# Altium schematic symbol library klp.SchLib: 211 symbols (part 2 of 2)
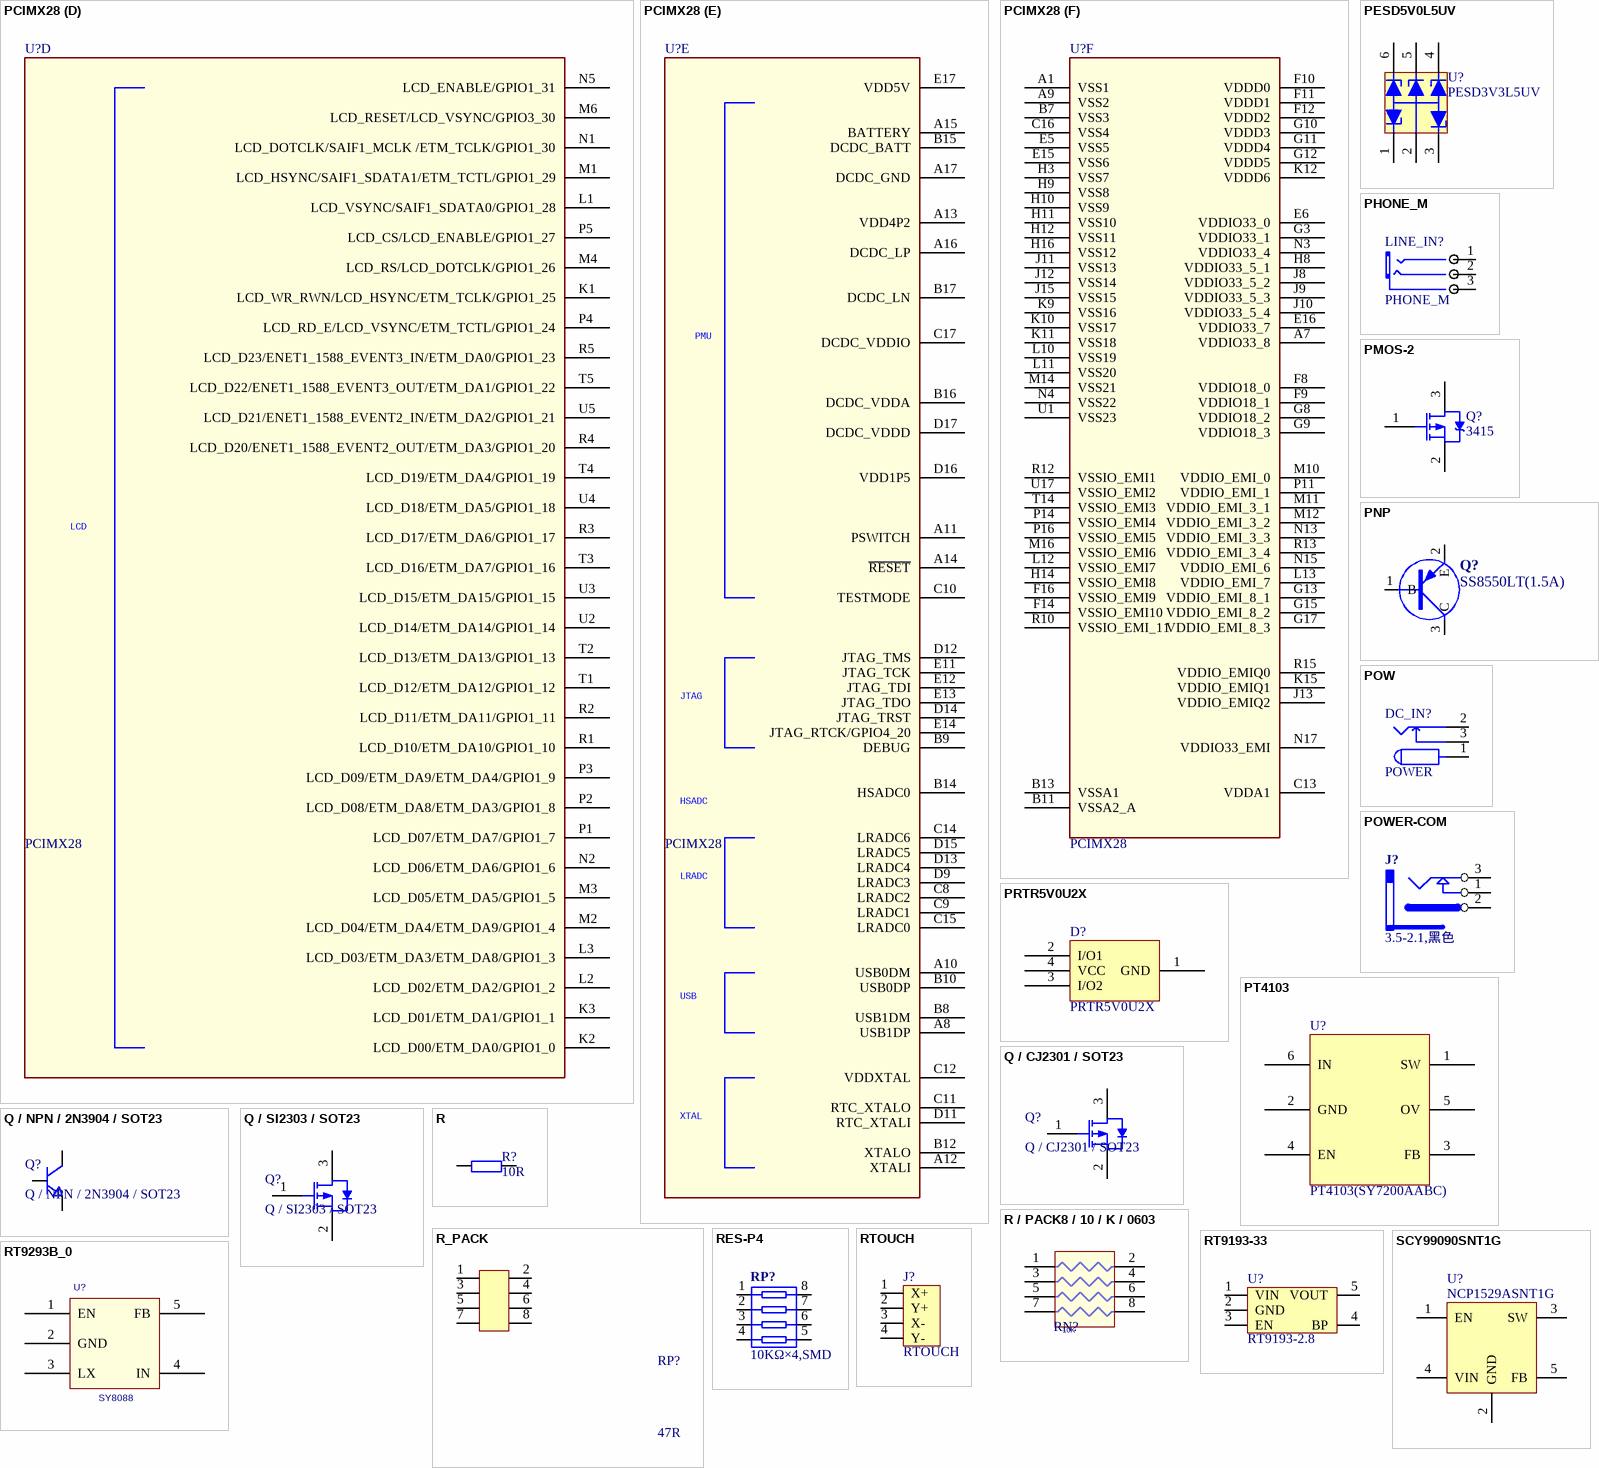
[diagram p14: symbols PCIMX28 to SCY99090SNT1G]

## PCIMX28
designator U?
footprint MAPBGA-289 (BGA, 81-Leads, Body 14.0x14.0mm,  Pitch 0.80mm)
part A pins: F13 EMI_D14, F15 EMI_DQM1, F17 EMI_D15, G14 EMI_D10, G16 EMI_D08, H13 EMI_D12, H15 EMI_D09, H17 EMI_D13, J14 EMI_D11, J16 EMI_DQS1N, J17 EMI_DQS1, K13 EMI_VREF1, K14 EMI_DDR_OPEN, K16 EMI_DQS0N, K17 EMI_DQS0, L14 EMI_D06, L15 EMI_DDR_OPEN_FB, L16 ~{EMI_CLK}, L17 EMI_CLK, M13 EMI_D01, M15 EMI_DQM0, M17 EMI_D07, N10 EMI_A14, N11 EMI_A07, N12 EMI_BA2, N14 EMI_D03, N16 EMI_D00, P9 ~{EMI_CE1}, P10 EMI_A09, P12 ~{EMI_CE0}, P13 EMI_D04, P15 EMI_D02, P17 EMI_D05, R9 EMI_A06, R11 EMI_A05, R14 EMI_VREF0, R16 ~{EMI_RAS}, R17 EMI_ODT0, T9 EMI_A13, T10 EMI_A11, T11 EMI_A03, T12 EMI_BA1, T13 EMI_CKE, T15 ~{EMI_WEN}, T16 EMI_BA0, T17 EMI_ODT1, U9 EMI_A08, U10 EMI_A04, U11 EMI_A12, U12 EMI_A01, U13 EMI_A10, U14 EMI_A02, U15 EMI_A00, U16 ~{EMI_CAS}
part B pins: A2 SSP3_SCK/AUART4_TX/ENET1_1588_EVENT0_OUT/GPIO2_24, A3 SSP2_SCK/AUART2_RX/SAIF0_SDATA1/GPIO2_16, A4 SSP0_CMD/GPIO2_8, A5 SSP0_DATA3/GPIO2_3, A6 SSP0_SCK/GPIO2_10, B1 SSP1_SCK/SSP2_D1/ENET0_1588_EVENT2_OUT/GPIO2_12, B2 SSP3_MISO:D0/AUART4_RTS/ENET1_1588_EVENT1_OUT/GPIO2_26, B3 SSP2_MISO:D0/AUART3_RX/SAIF1_SDATA1/GPIO2_18, B4 SSP0_DATA7/SSP2_SCK/GPIO2_7, B5 SSP0_DATA4/SSP2_D0/GPIO2_4, B6 SSP0_DATA0/GPIO2_0, C1 SSP1_CMD/SSP2_D2/ENET0_1588_EVENT2_IN//GPIO2_13, C2 SSP3_MOSI:CMD/AUART4_RX/ENET1_1588_EVENT0_IN/GPIO2_25, C3 SSP2_MOSI:CMD/AUART2_TX/SAIF0_SDATA2/GPIO2_17, C4 SSP2_SS0:D3/AUART3_TX/SAIF1_SDATA2/GPIO2_19, C5 SSP0_DATA5/SSP2_D3/GPIO2_5, C6 SSP0_DATA1/GPIO2_1, D1 SSP1_DATA0/SSP2_D6/ENET0_1588_EVENT3_OUT//GPIO2_14, D2 SSP3_SS0:D3/AUART4_CTS/ENET1_1588_EVENT1_IN/GPIO2_27, D3 SSP2_SS1:D4/SSP2_D1/USB1_OVERCURRENT/GPIO2_20, D4 SSP2_SS2:D5/SSP2_D2/USB0_OVERCURRENT/GPIO2_21, D5 SSP0_DATA6/SSP2_CMD/GPIO2_6, D6 SSP0_DATA2/GPIO2_2, D10 SSP0_DETECT/GPIO2_9, E1 SSP1_DATA3/SSP2_D7/ENET0_1588_EVENT3_IN//GPIO2_15, L8 GPMI_RDY3/CAN0_RX/HSADC_TRIGGER/GPIO0_23, L9 GPMI_RESETN/SSP3_CMD/GPIO0_28, M7 GPMI_CE2N/CAN1_TX/ENET0_RX_ER/GPIO0_18, M8 GPMI_RDY2/CAN0_TX/ENET0_TX_ER/GPIO0_22, M9 GPMI_CE3N/CAN1_RX/SAIF1_MCLK/GPIO0_19, N6 GPMI_RDY0/SSP1_CARD_DETECT/USB0_ID/GPIO0_20, N7 GPMI_CE0N/SSP3_D0/GPIO0_16, N8 GPMI_RDY1/SSP1_CMD/GPIO0_21, N9 GPMI_CE1N/SSP3_D3/GPIO0_17, P6 GPMI_ALE/SSP3_D1/SSP3_D4/GPIO0_26, P7 GPMI_CLE/SSP3_D2/SSP3_D5/GPIO0_27, P8 GPMI_WRN/SSP1_SCK/GPIO0_25, R6 GPMI_RDN/SSP3_SCK/GPIO0_24, R7 GPMI_D05/SSP1_D5/GPIO0_5, R8 GPMI_D02/SSP1_D2/GPIO0_2, T6 GPMI_D07/SSP1_D7/GPIO0_7, T7 GPMI_D04/SSP1_D4/GPIO0_4, T8 GPMI_D01/SSP1_D1/GPIO0_1, U6 GPMI_D06/SSP1_D6/GPIO0_6, U7 GPMI_D03/SSP1_D3/GPIO0_3, U8 GPMI_D00/SSP1_D0/GPIO0_0
part C pins: C7 I2C0_SCL/TIMROT_ROTARYA/DUART_RX/GPIO3_24, D7 SPDIF/ENET1_RX_ER/GPIO3_27, D8 I2C0_SDA/TIMROT_ROTARYB/DUART_TX/GPIO3_25, E2 ENET_CLK/GPIO4_16, E3 ENET0_TX_CLK/HSADC_TRIGGER/ENET0_1588_EVENT2_OUT/GPIO4_5, E4 ENET0_RX_EN/GPMI_CE6N/SAIF1_SDATA1/GPIO4_2, E7 SAIF0_SDATA0/PWM_6/AUART4_TX/GPIO3_23, E8 SAIF1_SDATA0/PWM_7/SAIF0_SDATA1/GPIO3_26, E9 PWM3/GPIO3_28, E10 PWM4/GPIO3_29, F1 ENET0_TXD0/GPMI_READY6/GPIO4_7, F2 ENET0_TXD1/GPMI_READY7/GPIO4_8, F3 ENET0_RX_CLK/ENET0_RX_ER/ENET0_1588_EVENT2_IN/GPIO4_13, F4 ENET0_TX_EN/GPMI_READY5/GPIO4_6, F5 AUART2_TX/SSP3_D2/SSP3_D5/GPIO3_9, F6 AUART2_RX/SSP3_D1/SSP3_D4/GPIO3_8, F7 SAIF0_BITCLK/PWM_5/AUART4_RX/GPIO3_22, G1 ENET0_TXD2/ENET1_TXD0/ENET0_1588_EVENT1_OUT/GPIO4_11, G2 ENET0_TXD3/ENET1_TXD1/ENET0_1588_EVENT1_IN/GPIO4_12, G4 ENET0_MDC/GPMI_CE4N/SAIF0_SDATA1/GPIO4_0, G5 AUART0_RX/I2C0_SCL/DUART_CTS/GPIO3_0, G6 SAIF0_LRCLK/PWM_4/AUART4_RTS/GPIO3_21, G7 SAIF0_MCLK/PWM_3/AUART4_CTS/GPIO3_20, H1 ENET0_RXD0/GPMI_CE7N/SAIF1_SDATA2/GPIO4_3, H2 ENET0_RXD1/GPMI_READY4/GPIO4_4, H4 ENET0_MDIO/GPMI_CE5N/SAIF0_SDATA2/GPIO4_1, H5 AUART0_TX/I2C0_SDA/DUART_RTS/GPIO3_1, H6 AUART2_CTS/I2C1_SCL/SAIF1_BITCLK/GPIO3_10, H7 AUART2_RTS/I2C1_SDA/SAIF1_LRCLK/GPIO3_11, J1 ENET0_RXD2/ENET1_RXD0/ENET0_1588_EVENT0_OUT/GPIO4_9, J2 ENET0_RXD3/ENET1_RXD1/ENET0_1588_EVENT0_IN/GPIO4_10, J3 ENET0_CRS/ENET1_RX_EN/ENET0_1588_EVENT3_IN/GPIO4_15, J4 ENET0_COL/ENET1_TX_EN/ENET0_1588_EVENT3_OUT/GPIO4_14, J5 AUART1_RTS/USB0_ID/TIMROT_ROTARYB/GPIO3_7, J6 AUART0_CTS/AUART4_RX/DUART_RX/GPIO3_2, J7 AUART0_RTS/AUART4_TX/DUART_TX/GPIO3_3, K4 AUART1_TX/SSP3_CARD_DETECT/PWM_1/GPIO3_5, K5 AUART1_CTS/USB0_OVERCURRENT/TIMROT_ROTARYA/GPIO3_6, K6 AUART3_RTS/CAN1_RX/ENET0_1588_EVENT1_IN/GPIO3_15, K7 PWM0/I2C1_SCL/DUART_RX/GPIO3_16, K8 PWM2/USB0_ID/USB1_OVERCURRENT/GPIO3_18, L4 AUART1_RX/SSP2_CARD_DETECT/PWM_0/GPIO3_4, L5 AUART3_TX/CAN0_RX/ENET0_1588_EVENT0_IN/GPIO3_13, L6 AUART3_CTS/CAN1_TX/ENET0_1588_EVENT1_OUT/GPIO3_14, L7 PWM1/I2C1_SDA/DUART_TX/GPIO3_17, M5 AUART3_RX/CAN0_TX/ENET0_1588_EVENT0_OUT/GPIO3_12
part D pins: K1 LCD_WR_RWN/LCD_HSYNC/ETM_TCLK/GPIO1_25, K2 LCD_D00/ETM_DA0/GPIO1_0, K3 LCD_D01/ETM_DA1/GPIO1_1, L1 LCD_VSYNC/SAIF1_SDATA0/GPIO1_28, L2 LCD_D02/ETM_DA2/GPIO1_2, L3 LCD_D03/ETM_DA3/ETM_DA8/GPIO1_3, M1 LCD_HSYNC/SAIF1_SDATA1/ETM_TCTL/GPIO1_29, M2 LCD_D04/ETM_DA4/ETM_DA9/GPIO1_4, M3 LCD_D05/ETM_DA5/GPIO1_5, M4 LCD_RS/LCD_DOTCLK/GPIO1_26, M6 LCD_RESET/LCD_VSYNC/GPIO3_30, N1 LCD_DOTCLK/SAIF1_MCLK /ETM_TCLK/GPIO1_30, N2 LCD_D06/ETM_DA6/GPIO1_6, N5 LCD_ENABLE/GPIO1_31, P1 LCD_D07/ETM_DA7/GPIO1_7, P2 LCD_D08/ETM_DA8/ETM_DA3/GPIO1_8, P3 LCD_D09/ETM_DA9/ETM_DA4/GPIO1_9, P4 LCD_RD_E/LCD_VSYNC/ETM_TCTL/GPIO1_24, P5 LCD_CS/LCD_ENABLE/GPIO1_27, R1 LCD_D10/ETM_DA10/GPIO1_10, R2 LCD_D11/ETM_DA11/GPIO1_11, R3 LCD_D17/ETM_DA6/GPIO1_17, R4 LCD_D20/ENET1_1588_EVENT2_OUT/ETM_DA3/GPIO1_20, R5 LCD_D23/ENET1_1588_EVENT3_IN/ETM_DA0/GPIO1_23, T1 LCD_D12/ETM_DA12/GPIO1_12, T2 LCD_D13/ETM_DA13/GPIO1_13, T3 LCD_D16/ETM_DA7/GPIO1_16, T4 LCD_D19/ETM_DA4/GPIO1_19, T5 LCD_D22/ENET1_1588_EVENT3_OUT/ETM_DA1/GPIO1_22, U2 LCD_D14/ETM_DA14/GPIO1_14, U3 LCD_D15/ETM_DA15/GPIO1_15, U4 LCD_D18/ETM_DA5/GPIO1_18, U5 LCD_D21/ENET1_1588_EVENT2_IN/ETM_DA2/GPIO1_21
part E pins: A8 USB1DP, A10 USB0DM, A11 PSWITCH, A12 XTALI, A13 VDD4P2, A14 ~{RESET}, A15 BATTERY, A16 DCDC_LP, A17 DCDC_GND, B8 USB1DM, B9 DEBUG, B10 USB0DP, B12 XTALO, B14 HSADC0, B15 DCDC_BATT, B16 DCDC_VDDA, B17 DCDC_LN, C8 LRADC2, C9 LRADC1, C10 TESTMODE, C11 RTC_XTALO, C12 VDDXTAL, C14 LRADC6, C15 LRADC0, C17 DCDC_VDDIO, D9 LRADC3, D11 RTC_XTALI, D12 JTAG_TMS, D13 LRADC4, D14 JTAG_TRST, D15 LRADC5, D16 VDD1P5, D17 DCDC_VDDD, E11 JTAG_TCK, E12 JTAG_TDI, E13 JTAG_TDO, E14 JTAG_RTCK/GPIO4_20, E17 VDD5V
part F pins: A1 VSS1, A7 VDDIO33_8, A9 VSS2, B7 VSS3, B11 VSSA2_A, B13 VSSA1, C13 VDDA1, C16 VSS4, E5 VSS5, E6 VDDIO33_0, E15 VSS6, E16 VDDIO33_7, F8 VDDIO18_0, F9 VDDIO18_1, F10 VDDD0, F11 VDDD1, F12 VDDD2, F14 VSSIO_EMI10, F16 VSSIO_EMI9, G3 VDDIO33_1, G8 VDDIO18_2, G9 VDDIO18_3, G10 VDDD3, G11 VDDD4, G12 VDDD5, G13 VDDIO_EMI_8_1, G15 VDDIO_EMI_8_2, G17 VDDIO_EMI_8_3, H3 VSS7, H8 VDDIO33_5_1, H9 VSS8, H10 VSS9, H11 VSS10, H12 VSS11, H14 VSSIO_EMI8, H16 VSS12, J8 VDDIO33_5_2, J9 VDDIO33_5_3, J10 VDDIO33_5_4, J11 VSS13, J12 VSS14, J13 VDDIO_EMIQ2, J15 VSS15, K9 VSS16, K10 VSS17, K11 VSS18, K12 VDDD6, K15 VDDIO_EMIQ1, L10 VSS19, L11 VSS20, L12 VSSIO_EMI7, L13 VDDIO_EMI_7, M10 VDDIO_EMI_0, M11 VDDIO_EMI_3_1, M12 VDDIO_EMI_3_2, M14 VSS21, M16 VSSIO_EMI6, N3 VDDIO33_4, N4 VSS22, N13 VDDIO_EMI_3_3, N15 VDDIO_EMI_6, N17 VDDIO33_EMI, P11 VDDIO_EMI_1, P14 VSSIO_EMI4, P16 VSSIO_EMI5, R10 VSSIO_EMI_11, R12 VSSIO_EMI1, R13 VDDIO_EMI_3_4, R15 VDDIO_EMIQ0, T14 VSSIO_EMI3, U1 VSS23, U17 VSSIO_EMI2
part A text: EMI
part B text: GPMI; SSP0; SSP1; SSP2; SSP3
part C text: I2C0; AUART0; AUART1; AUART2; AUART3; ENET0; PWM; SAIF0; SAIF1; SPDIF
part D text: LCD
part E text: PMU; JTAG; HSADC; LRADC; USB; XTAL

## PESD5V0L5UV
designator U?  value PESD3V3L5UV  (hidden comment: PESD5V0L5UV)
PESD3V3L5UV,SOT-666,NXP,RoHS; 物料代码: 1.05.10.0315; 名称: IC; 设备封装名称: SOT-666_PESD3V3L5UV; 贴片和直插: SMT; 封装: SOT-666; 厂商: NXP; RoHS: RoHS; 型号: PESD3V3L5UV; ComponentLink1Description: ErpDataInfo; ComponentLink1URL: http://erp.zlgmcu.com/ErpExt/ErpData/ListMateriel.aspx?pkey=1.05.10.0315
footprint SOT-666
pins: 1, 2, 3, 4, 5, 6
2 alternate drawings of the same symbol

## PHONE_M
designator LINE_IN?
footprint PHONE_ST
pins: 1 CHL, 2 CHR, 3 COM

## PMOS-2
designator Q?, comment 3415
P-Channel Power MOSFET; Note: Pin 4 not drawn and electrically connected to Pin 2.; Published: 8-Jun-2000; LatestRevisionDate: 17-Jul-2002; LatestRevisionNote: Re-released for DXP Platform.; DatasheetVersion: PD-9.390D; PackageVersion: Feb-1997; PackageReference: TO-220AB; Publisher: Altium Limited; PackageDescription: TO, Thru-Hole, Vertical, Heatsink Mounted; 3 In-Line Leads; Pitch 2.54 mm; ComponentLink1Description: Manufacturer Link; ComponentLink1URL: http://www.irf.com/
footprint SOT-23
simulation model IRF9510 (Spice Subcircuit)
pins: 1 G, 2 S, 3 D

## PNP
designator Q?, comment value SS8550LT(1.5A)  (hidden comment: PNP-1)
SS8550LT(1.5A),SOT-23,江苏长电,RoHS; 物料代码: 1.04.09.0002; 名称: 三极管; 设备封装名称: SOT-23_SS8550LT; 贴片和直插: SMT; 封装: SOT-23; 厂商: 江苏长电; RoHS: RoHS; 型号: SS8550LT(1.5A); ComponentLink1Description: ErpDataInfo; ComponentLink1URL: http://erp.zlgmcu.com/ErpExt/ErpData/ListMateriel.aspx?pkey=1.04.09.0002
footprint SOT-23
pins: 1 B, 2 E, 3 C
2 alternate drawings of the same symbol

## POW
designator DC_IN?, comment POWER
footprint POWER (DC_IN)
footprint DC10B
pins: 1, 2, 3

## POWER-COM
designator J?  value 3.5-2.1,黑色  (hidden comment: POWER-COM)
3.5-2.1,黑色,RoHS; 物料代码: 1.10.05.0001; 名称: 电源座; 贴片和直插: THT; RoHS: RoHS; 型号: 3.5-2.1,黑色; ComponentLink1Description: ErpDataInfo; ComponentLink1URL: http://erp.zlgmcu.com/ErpExt/ErpData/ListMateriel.aspx?pkey=1.10.05.0001
footprint POWER-AC
pins: 1 A, 2 B, 3 B
2 alternate drawings of the same symbol

## PRTR5V0U2X
designator D?
PRTR5V0U2X,SOT-143B,NXP,RoHS; 物料代码: 1.05.10.0153; 名称: IC; 设备封装名称: SOT-143B_PRTR5V0U2X; 贴片和直插: SMT; 封装: SOT-143B; 厂商: NXP; RoHS: RoHS; 型号: PRTR5V0U2X; ComponentLink1Description: ErpDataInfo; ComponentLink1URL: http://erp.zlgmcu.com/ErpExt/ErpData/ListMateriel.aspx?pkey=1.05.10.0153; Value: PRTR5V0U2X
footprint SOT-143
pins: 1 GND, 2 I/O1, 3 I/O2, 4 VCC
2 alternate drawings of the same symbol

## PT4103
designator U?, comment PT4103(SY7200AABC)
footprint SOT23-6 (SOT-23/SC-74A; 5 Leads; Body 3.1 x 3 mm, inc. leads (LxW max))
pins: 1 SW, 2 GND, 3 FB, 4 EN, 5 OV, 6 IN

## Q / CJ2301 / SOT23
designator Q?
P-MOS
footprint SOT23
pins: 1 G, 2 S, 3 D

## Q / NPN / 2N3904 / SOT23
designator Q?
NPN三极管
footprint SOT23
pins: 1, 2, 3

## Q / SI2303 / SOT23
designator Q?
PMOS
footprint SOT23
pins: 1 G "gate", 2 S "source", 3 D "drain"

## R
designator R?, comment 10R
footprint RL (10o/0.7uH)
footprint R16.0 (RX/1W)
footprint 1206
footprint 1210
footprint R20.0 (RX/2W)
footprint R10.16 (STD)
footprint RLN9 (13.5mm*5.1mm)
footprint 0402R
footprint 0603R
footprint 0805R
pins: 1, 2

## R / PACK8 / 10 / K / 0603
designator RN?, comment 10K
贴片排阻
footprint Array-1206-4Way
pins: 1 R1, 2 R1, 3 R2, 4 R2, 5 R3, 6 R3, 7 R4, 8 R4

## R_PACK
designator RP?, comment 47R
排阻
footprint 8P4R_0603
pins: 1, 2, 3, 4, 5, 6, 7, 8

## RES-P4
designator RP?, comment 10KΩ×4,SMD
10KΩ×4,SMD,PZ-4-0.8,RoHS; 物料代码: 1.01.04.0004; 名称: 网络电阻; 设备封装名称: 10K_4_0603; 贴片和直插: SMT; 封装: PZ-4-0.8; RoHS: RoHS; 型号: 10KΩ×4,SMD; ComponentLink1Description: ErpDataInfo; ComponentLink1URL: http://erp.zlgmcu.com/ErpExt/ErpData/ListMateriel.aspx?pkey=1.01.04.0004; Value: 10KΩ×4,SMD
footprint 0603RA
pins: 1, 2, 3, 4, 5, 6, 7, 8
2 alternate drawings of the same symbol

## RT9193-33
designator U?, comment RT9193-2.8
3.3V超低压差LDO
footprint SOT-23-5
pins: 1 VIN, 2 GND, 3 EN, 4 BP, 5 VOUT

## RT9293B_0
designator U?, comment SY8088
PAGE: 5; ROOM: DCDC
footprint SOT23-5
footprint SOT23-5
pins: 1 EN, 2 GND, 3 LX, 4 IN, 5 FB

## RTOUCH
designator J?
7' 电阻触摸屏
footprint FFC/SM1.0-4
pins: 1 X+, 2 Y+, 3 X-, 4 Y-

## SCY99090SNT1G
designator U?  value NCP1529ASNT1G  (hidden comment: SCY99090SNT1G)
NCP1529ASNT1G,TSOP-5,ON,RoHS; 物料代码: 1.05.09.0091; 名称: IC; 设备封装名称: TSOP-5_NCP1529ASNT1G; 贴片和直插: SMT; 封装: TSOP-5; 厂商: ON; RoHS: RoHS; 型号: NCP1529ASNT1G; ComponentLink1Description: ErpDataInfo; ComponentLink1URL: http://erp.zlgmcu.com/ErpExt/ErpData/ListMateriel.aspx?pkey=1.05.09.0091
footprint SOT-23-5
pins: 1 EN, 2 GND, 3 SW, 4 VIN, 5 FB

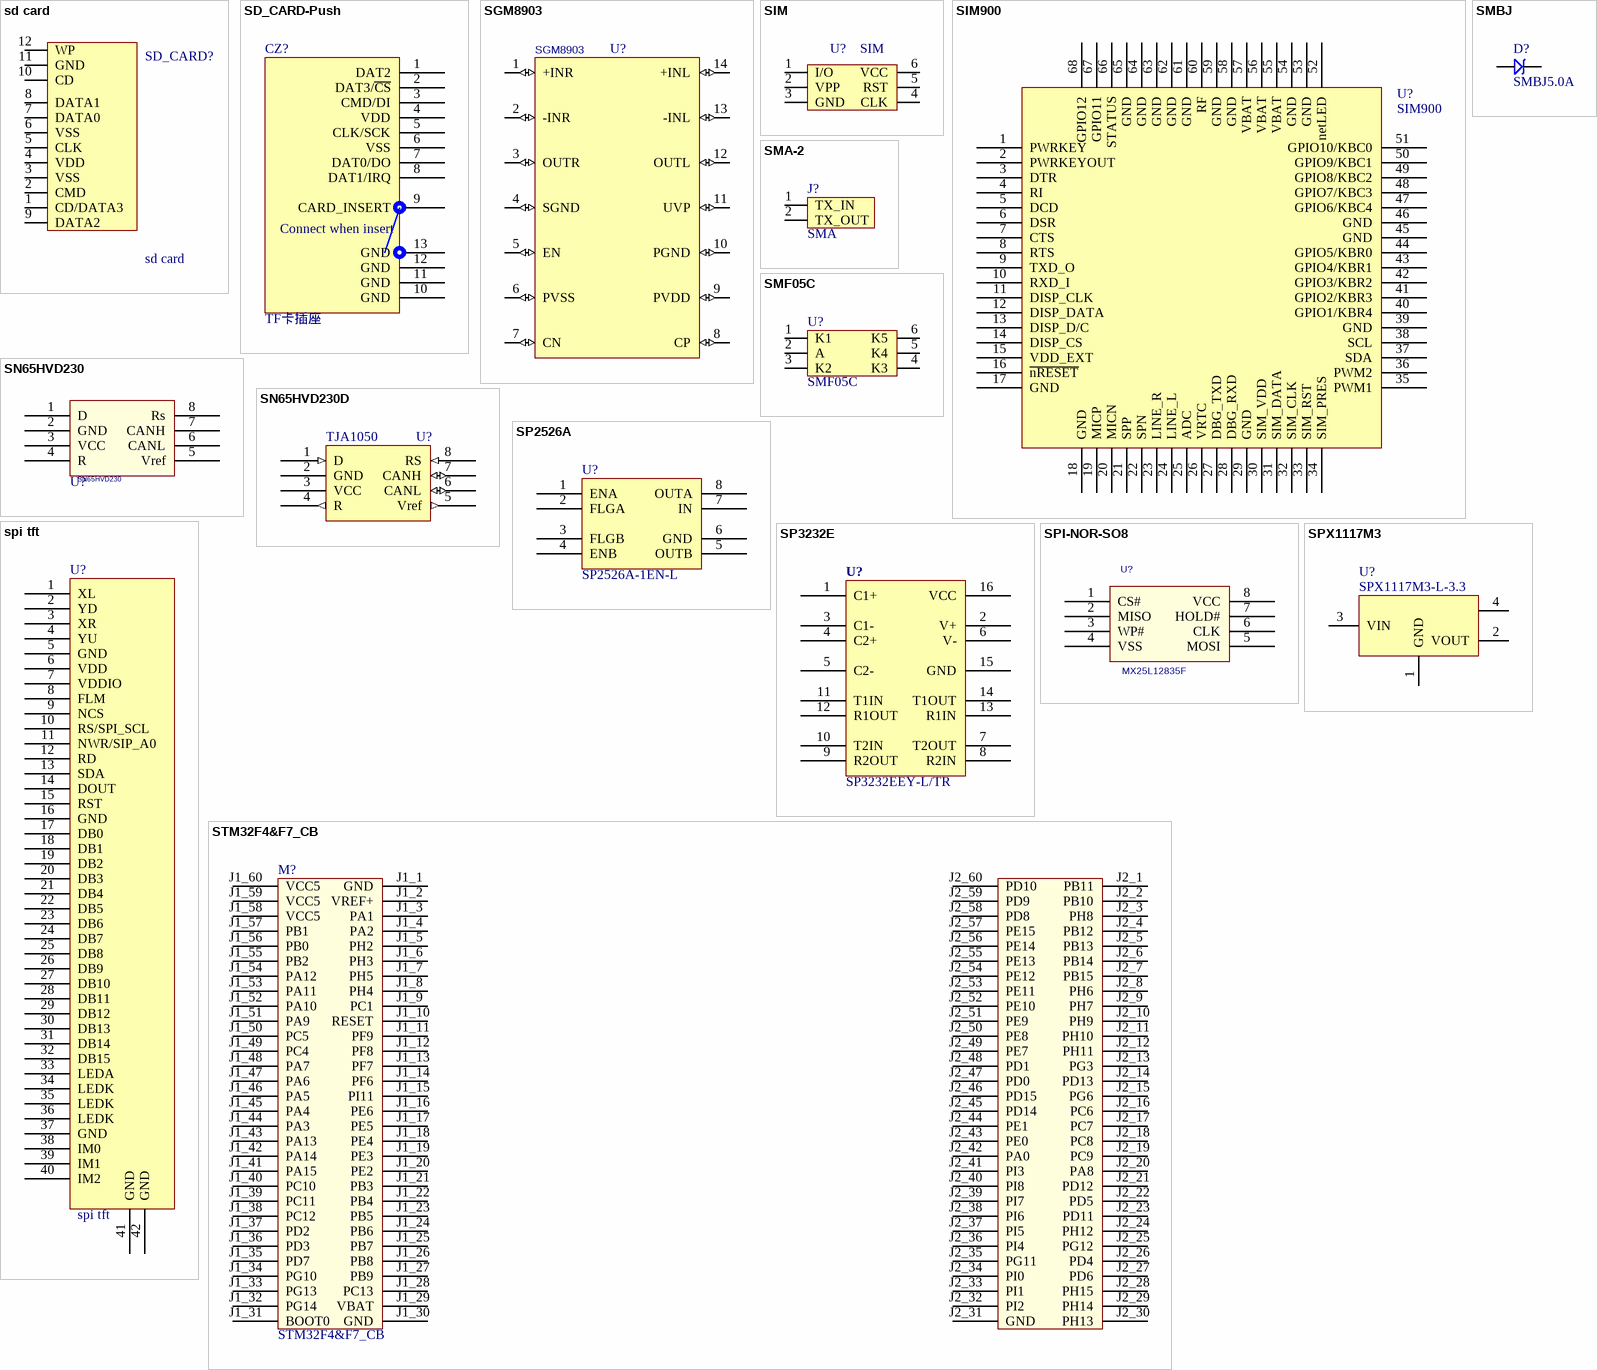
[diagram p10: symbols sd card to STM32F4&F7_CB]

## sd card
designator SD_CARD?
footprint SDCARD_S (SDCARD_SMALL)
footprint SDCARD_L
pins: 1 CD/DATA3, 2 CMD, 3 VSS, 4 VDD, 5 CLK, 6 VSS, 7 DATA0, 8 DATA1, 9 DATA2, 10 CD, 11 GND, 12 WP

## SD_CARD-Push
designator CZ?, comment TF卡插座
自弹式TF卡卡座
footprint SDIO卡座(8P)
pins: 1 DAT2, 2 DAT3/~{CS}, 3 CMD/DI, 4 VDD, 5 CLK/SCK, 6 VSS, 7 DAT0/DO, 8 DAT1/IRQ, 9 CARD_INSERT, 10 GND, 11 GND, 12 GND, 13 GND
text: Connect when insert

## SGM8903
designator U?
PARTS: 1; LEVEL: STD; OriginalSymbolOrigin: (0,0); HETERO: SGM8903; PKG_TYPE: SGM8903; DEVICE: SGM8903
footprint SGM8903
pins: 1 +INR (io), 2 -INR (io), 3 OUTR (io), 4 SGND (io), 5 EN (io), 6 PVSS (io), 7 CN (io), 8 CP (io), 9 PVDD (io), 10 PGND (io), 11 UVP (io), 12 OUTL (io), 13 -INL (io), 14 +INL (io)

## SIM
designator U?
手机SIM卡
footprint SIM (金属式)
pins: 1 I/O, 2 VPP, 3 GND, 4 CLK, 5 RST, 6 VCC

## SIM900
designator U?
footprint GSM_900A
pins: 1 PWRKEY, 2 PWRKEYOUT, 3 DTR, 4 RI, 5 DCD, 6 DSR, 7 CTS, 8 RTS, 9 TXD_O, 10 RXD_I, 11 DISP_CLK, 12 DISP_DATA, 13 DISP_D/C, 14 DISP_CS, 15 VDD_EXT, 16 ~{nRESET}, 17 GND, 18 GND, 19 MICP, 20 MICN, 21 SPP, 22 SPN, 23 LINE_R, 24 LINE_L, 25 ADC, 26 VRTC, 27 DBG_TXD, 28 DBG_RXD, 29 GND, 30 SIM_VDD, 31 SIM_DATA, 32 SIM_CLK, 33 SIM_RST, 34 SIM_PRES, 35 PWM1, 36 PWM2, 37 SDA, 38 SCL, 39 GND, 40 GPIO1/KBR4, 41 GPIO2/KBR3, 42 GPIO3/KBR2, 43 GPIO4/KBR1, 44 GPIO5/KBR0, 45 GND, 46 GND, 47 GPIO6/KBC4, 48 GPIO7/KBC3, 49 GPIO8/KBC2, 50 GPIO9/KBC1, 51 GPIO10/KBC0, 52 netLED, 53 GND, 54 GND, 55 VBAT, 56 VBAT, 57 VBAT, 58 GND, 59 GND, 60 RF, 61 GND, 62 GND, 63 GND, 64 GND, 65 GND, 66 STATUS, 67 GPIO11, 68 GPIO12

## SMA-2
designator J?, comment SMA
SMA-2
footprint SMA-2
pins: 1 TX_IN, 2 TX_OUT

## SMBJ
designator D?, comment SMBJ5.0A
TVS
footprint SMBJ (3.9*5.6)
pins: 1, 2

## SMF05C
designator U?
TVS
footprint SOT-363
pins: 1 K1, 2 A, 3 K2, 4 K3, 5 K4, 6 K5

## SN65HVD230
designator U?
footprint SOIC8
pins: 1 D, 2 GND, 3 VCC, 4 R, 5 Vref, 6 CANL, 7 CANH, 8 Rs

## SN65HVD230D
designator U?, comment TJA1050
footprint SOP-8 (SSOP8)
footprint SO8
pins: 1 D (in), 2 GND (power), 3 VCC (power), 4 R (out), 5 Vref (out), 6 CANL (io), 7 CANH (io), 8 RS (in)
2 alternate drawings of the same symbol

## SP2526A
designator U?  value SP2526A-1EN-L  (hidden comment: SP2526A)
SP2526A-1EN-L,SO-8,EXAR,RoHS; 物料代码: 1.05.09.0064; 名称: IC; 设备封装名称: SO-8_SP2526A-1EN-L; 贴片和直插: SMT; 封装: SO-8; 厂商: EXAR; RoHS: RoHS; 型号: SP2526A-1EN-L; ComponentLink1Description: ErpDataInfo; ComponentLink1URL: http://erp.zlgmcu.com/ErpExt/ErpData/ListMateriel.aspx?pkey=1.05.09.0064
footprint SOIC127P600X175-8N
pins: 1 ENA, 2 FLGA, 3 FLGB, 4 ENB, 5 OUTB, 6 GND, 7 IN, 8 OUTA
2 alternate drawings of the same symbol

## SP3232E
designator U?  value SP3232EEY-L/TR  (hidden comment: SP3232E)
SP3232EEY-L/TR,TSSOP-16,EXAR,RoHS; 物料代码: 1.05.08.0024; 名称: IC; 设备封装名称: TSSOP-16_SP3232EEY-L/TR; 贴片和直插: SMT; 封装: TSSOP-16; 厂商: EXAR; RoHS: RoHS; 型号: SP3232EEY-L/TR; ComponentLink1Description: ErpDataInfo; ComponentLink1URL: http://erp.zlgmcu.com/ErpExt/ErpData/ListMateriel.aspx?pkey=1.05.08.0024
footprint SOP65P640X120-16N
pins: 1 C1+, 2 V+, 3 C1-, 4 C2+, 5 C2-, 6 V-, 7 T2OUT, 8 R2IN, 9 R2OUT, 10 T2IN, 11 T1IN, 12 R1OUT, 13 R1IN, 14 T1OUT, 15 GND, 16 VCC

## spi tft
designator U?
footprint FPC-40-0.5-up (CFP, 90-Leads, Body 1.4x5.1mm (max), Pitch 0.50mm, IPC Medium Density)
pins: 1 XL, 2 YD, 3 XR, 4 YU, 5 GND, 6 VDD, 7 VDDIO, 8 FLM, 9 NCS, 10 RS/SPI_SCL, 11 NWR/SIP_A0, 12 RD, 13 SDA, 14 DOUT, 15 RST, 16 GND, 17 DB0, 18 DB1, 19 DB2, 20 DB3, 21 DB4, 22 DB5, 23 DB6, 24 DB7, 25 DB8, 26 DB9, 27 DB10, 28 DB11, 29 DB12, 30 DB13, 31 DB14, 32 DB15, 33 LEDA, 34 LEDK, 35 LEDK, 36 LEDK, 37 GND, 38 IM0, 39 IM1, 40 IM2, 41 GND, 42 GND

## SPI-NOR-SO8
designator U?, comment MX25L12835F
PAGE: 7
footprint SOP-8M(PAD)
pins: 1 CS#, 2 MISO, 3 WP#, 4 VSS, 5 MOSI, 6 CLK, 7 HOLD#, 8 VCC

## SPX1117M3
designator U?, comment value SPX1117M3-L-3.3  (hidden comment: SPX1117M3-L/TR)
SPX1117M3-L-3.3,SOT-223,EXAR,RoHS; 物料代码: 1.05.09.0025; 名称: IC; 设备封装名称: SOT-223_SPX1117M3-L-3.3; 贴片和直插: SMT; 封装: SOT-223; 厂商: EXAR; RoHS: RoHS; 型号: SPX1117M3-L-3.3; ComponentLink1Description: ErpDataInfo; ComponentLink1URL: http://erp.zlgmcu.com/ErpExt/ErpData/ListMateriel.aspx?pkey=1.05.09.0025
footprint SOT-223
pins: 1 GND, 2 VOUT, 3 VIN, 4

## STM32F4&F7_CB
designator M?
F429/746 Core Board
footprint STM32F4&F7_CB (PIN:0.5mm;SOP;)
pins: J1_1 GND, J1_2 VREF+, J1_3 PA1, J1_4 PA2, J1_5 PH2, J1_6 PH3, J1_7 PH5, J1_8 PH4, J1_9 PC1, J1_10 RESET, J1_11 PF9, J1_12 PF8, J1_13 PF7, J1_14 PF6, J1_15 PI11, J1_16 PE6, J1_17 PE5, J1_18 PE4, J1_19 PE3, J1_20 PE2, J1_21 PB3, J1_22 PB4, J1_23 PB5, J1_24 PB6, J1_25 PB7, J1_26 PB8, J1_27 PB9, J1_28 PC13, J1_29 VBAT, J1_30 GND, J1_31 BOOT0, J1_32 PG14, J1_33 PG13, J1_34 PG10, J1_35 PD7, J1_36 PD3, J1_37 PD2, J1_38 PC12, J1_39 PC11, J1_40 PC10, J1_41 PA15, J1_42 PA14, J1_43 PA13, J1_44 PA3, J1_45 PA4, J1_46 PA5, J1_47 PA6, J1_48 PA7, J1_49 PC4, J1_50 PC5, J1_51 PA9, J1_52 PA10, J1_53 PA11, J1_54 PA12, J1_55 PB2, J1_56 PB0, J1_57 PB1, J1_58 VCC5, J1_59 VCC5, J1_60 VCC5, J2_1 PB11, J2_2 PB10, J2_3 PH8, J2_4 PB12, J2_5 PB13, J2_6 PB14, J2_7 PB15, J2_8 PH6, J2_9 PH7, J2_10 PH9, J2_11 PH10, J2_12 PH11, J2_13 PG3, J2_14 PD13, J2_15 PG6, J2_16 PC6, J2_17 PC7, J2_18 PC8, J2_19 PC9, J2_20 PA8, J2_21 PD12, J2_22 PD5, J2_23 PD11, J2_24 PH12, J2_25 PG12, J2_26 PD4, J2_27 PD6, J2_28 PH15, J2_29 PH14, J2_30 PH13, J2_31 GND, J2_32 PI2, J2_33 PI1, J2_34 PI0, J2_35 PG11, J2_36 PI4, J2_37 PI5, J2_38 PI6, J2_39 PI7, J2_40 PI8, J2_41 PI3, J2_42 PA0, J2_43 PE0, J2_44 PE1, J2_45 PD14, J2_46 PD15, J2_47 PD0, J2_48 PD1, J2_49 PE7, J2_50 PE8, J2_51 PE9, J2_52 PE10, J2_53 PE11, J2_54 PE12, J2_55 PE13, J2_56 PE14, J2_57 PE15, J2_58 PD8, J2_59 PD9, J2_60 PD10

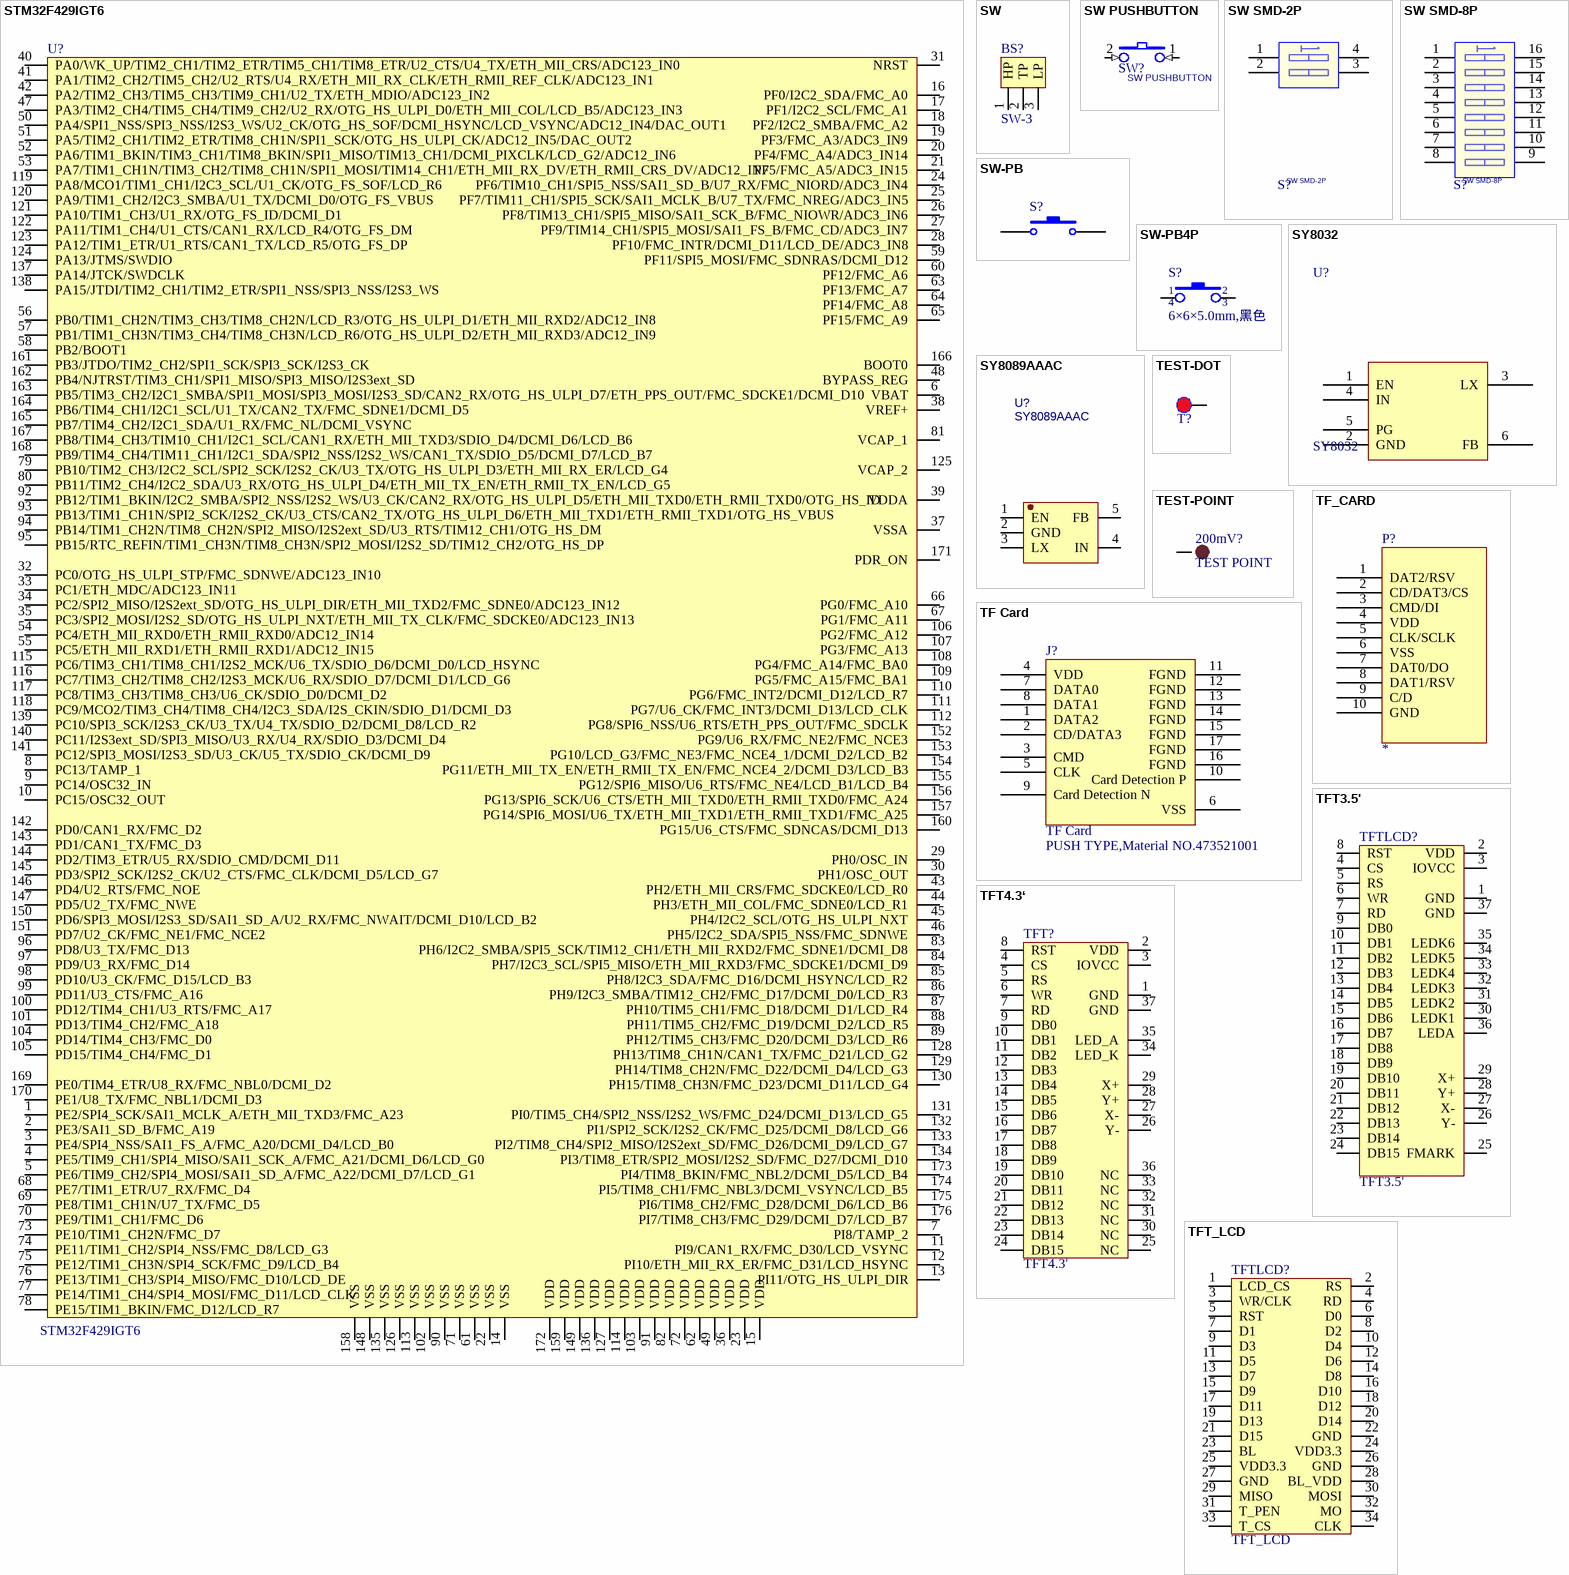
[diagram p11: symbols STM32F429IGT6 to TFT_LCD]

## STM32F429IGT6
designator U?
footprint LQFP176 (TSQFP, 176-Leads, Body 26.1x26.1mm (max), Pitch 0.50mm, IPC Medium Density)
pins: 1 PE2/SPI4_SCK/SAI1_MCLK_A/ETH_MII_TXD3/FMC_A23, 2 PE3/SAI1_SD_B/FMC_A19, 3 PE4/SPI4_NSS/SAI1_FS_A/FMC_A20/DCMI_D4/LCD_B0, 4 PE5/TIM9_CH1/SPI4_MISO/SAI1_SCK_A/FMC_A21/DCMI_D6/LCD_G0, 5 PE6/TIM9_CH2/SPI4_MOSI/SAI1_SD_A/FMC_A22/DCMI_D7/LCD_G1, 6 VBAT, 7 PI8/TAMP_2, 8 PC13/TAMP_1, 9 PC14/OSC32_IN, 10 PC15/OSC32_OUT, 11 PI9/CAN1_RX/FMC_D30/LCD_VSYNC, 12 PI10/ETH_MII_RX_ER/FMC_D31/LCD_HSYNC, 13 PI11/OTG_HS_ULPI_DIR, 14 VSS, 15 VDD, 16 PF0/I2C2_SDA/FMC_A0, 17 PF1/I2C2_SCL/FMC_A1, 18 PF2/I2C2_SMBA/FMC_A2, 19 PF3/FMC_A3/ADC3_IN9, 20 PF4/FMC_A4/ADC3_IN14, 21 PF5/FMC_A5/ADC3_IN15, 22 VSS, 23 VDD, 24 PF6/TIM10_CH1/SPI5_NSS/SAI1_SD_B/U7_RX/FMC_NIORD/ADC3_IN4, 25 PF7/TIM11_CH1/SPI5_SCK/SAI1_MCLK_B/U7_TX/FMC_NREG/ADC3_IN5, 26 PF8/TIM13_CH1/SPI5_MISO/SAI1_SCK_B/FMC_NIOWR/ADC3_IN6, 27 PF9/TIM14_CH1/SPI5_MOSI/SAI1_FS_B/FMC_CD/ADC3_IN7, 28 PF10/FMC_INTR/DCMI_D11/LCD_DE/ADC3_IN8, 29 PH0/OSC_IN, 30 PH1/OSC_OUT, 31 NRST, 32 PC0/OTG_HS_ULPI_STP/FMC_SDNWE/ADC123_IN10, 33 PC1/ETH_MDC/ADC123_IN11, 34 PC2/SPI2_MISO/I2S2ext_SD/OTG_HS_ULPI_DIR/ETH_MII_TXD2/FMC_SDNE0/ADC123_IN12, 35 PC3/SPI2_MOSI/I2S2_SD/OTG_HS_ULPI_NXT/ETH_MII_TX_CLK/FMC_SDCKE0/ADC123_IN13, 36 VDD, 37 VSSA, 38 VREF+, 39 VDDA, 40 PA0/WK_UP/TIM2_CH1/TIM2_ETR/TIM5_CH1/TIM8_ETR/U2_CTS/U4_TX/ETH_MII_CRS/ADC123_IN0, 41 PA1/TIM2_CH2/TIM5_CH2/U2_RTS/U4_RX/ETH_MII_RX_CLK/ETH_RMII_REF_CLK/ADC123_IN1, 42 PA2/TIM2_CH3/TIM5_CH3/TIM9_CH1/U2_TX/ETH_MDIO/ADC123_IN2, 43 PH2/ETH_MII_CRS/FMC_SDCKE0/LCD_R0, 44 PH3/ETH_MII_COL/FMC_SDNE0/LCD_R1, 45 PH4/I2C2_SCL/OTG_HS_ULPI_NXT, 46 PH5/I2C2_SDA/SPI5_NSS/FMC_SDNWE, 47 PA3/TIM2_CH4/TIM5_CH4/TIM9_CH2/U2_RX/OTG_HS_ULPI_D0/ETH_MII_COL/LCD_B5/ADC123_IN3, 48 BYPASS_REG, 49 VDD, 50 PA4/SPI1_NSS/SPI3_NSS/I2S3_WS/U2_CK/OTG_HS_SOF/DCMI_HSYNC/LCD_VSYNC/ADC12_IN4/DAC_OUT1, 51 PA5/TIM2_CH1/TIM2_ETR/TIM8_CH1N/SPI1_SCK/OTG_HS_ULPI_CK/ADC12_IN5/DAC_OUT2, 52 PA6/TIM1_BKIN/TIM3_CH1/TIM8_BKIN/SPI1_MISO/TIM13_CH1/DCMI_PIXCLK/LCD_G2/ADC12_IN6, 53 PA7/TIM1_CH1N/TIM3_CH2/TIM8_CH1N/SPI1_MOSI/TIM14_CH1/ETH_MII_RX_DV/ETH_RMII_CRS_DV/ADC12_IN7, 54 PC4/ETH_MII_RXD0/ETH_RMII_RXD0/ADC12_IN14, 55 PC5/ETH_MII_RXD1/ETH_RMII_RXD1/ADC12_IN15, 56 PB0/TIM1_CH2N/TIM3_CH3/TIM8_CH2N/LCD_R3/OTG_HS_ULPI_D1/ETH_MII_RXD2/ADC12_IN8, 57 PB1/TIM1_CH3N/TIM3_CH4/TIM8_CH3N/LCD_R6/OTG_HS_ULPI_D2/ETH_MII_RXD3/ADC12_IN9, 58 PB2/BOOT1, 59 PF11/SPI5_MOSI/FMC_SDNRAS/DCMI_D12, 60 PF12/FMC_A6, 61 VSS, 62 VDD, 63 PF13/FMC_A7, 64 PF14/FMC_A8, 65 PF15/FMC_A9, 66 PG0/FMC_A10, 67 PG1/FMC_A11, 68 PE7/TIM1_ETR/U7_RX/FMC_D4, 69 PE8/TIM1_CH1N/U7_TX/FMC_D5, 70 PE9/TIM1_CH1/FMC_D6, 71 VSS, 72 VDD, 73 PE10/TIM1_CH2N/FMC_D7, 74 PE11/TIM1_CH2/SPI4_NSS/FMC_D8/LCD_G3, 75 PE12/TIM1_CH3N/SPI4_SCK/FMC_D9/LCD_B4, 76 PE13/TIM1_CH3/SPI4_MISO/FMC_D10/LCD_DE, 77 PE14/TIM1_CH4/SPI4_MOSI/FMC_D11/LCD_CLK, 78 PE15/TIM1_BKIN/FMC_D12/LCD_R7, 79 PB10/TIM2_CH3/I2C2_SCL/SPI2_SCK/I2S2_CK/U3_TX/OTG_HS_ULPI_D3/ETH_MII_RX_ER/LCD_G4, 80 PB11/TIM2_CH4/I2C2_SDA/U3_RX/OTG_HS_ULPI_D4/ETH_MII_TX_EN/ETH_RMII_TX_EN/LCD_G5, 81 VCAP_1, 82 VDD, 83 PH6/I2C2_SMBA/SPI5_SCK/TIM12_CH1/ETH_MII_RXD2/FMC_SDNE1/DCMI_D8, 84 PH7/I2C3_SCL/SPI5_MISO/ETH_MII_RXD3/FMC_SDCKE1/DCMI_D9, 85 PH8/I2C3_SDA/FMC_D16/DCMI_HSYNC/LCD_R2, 86 PH9/I2C3_SMBA/TIM12_CH2/FMC_D17/DCMI_D0/LCD_R3, 87 PH10/TIM5_CH1/FMC_D18/DCMI_D1/LCD_R4, 88 PH11/TIM5_CH2/FMC_D19/DCMI_D2/LCD_R5, 89 PH12/TIM5_CH3/FMC_D20/DCMI_D3/LCD_R6, 90 VSS, 91 VDD, 92 PB12/TIM1_BKIN/I2C2_SMBA/SPI2_NSS/I2S2_WS/U3_CK/CAN2_RX/OTG_HS_ULPI_D5/ETH_MII_TXD0/ETH_RMII_TXD0/OTG_HS_ID, 93 PB13/TIM1_CH1N/SPI2_SCK/I2S2_CK/U3_CTS/CAN2_TX/OTG_HS_ULPI_D6/ETH_MII_TXD1/ETH_RMII_TXD1/OTG_HS_VBUS, 94 PB14/TIM1_CH2N/TIM8_CH2N/SPI2_MISO/I2S2ext_SD/U3_RTS/TIM12_CH1/OTG_HS_DM, 95 PB15/RTC_REFIN/TIM1_CH3N/TIM8_CH3N/SPI2_MOSI/I2S2_SD/TIM12_CH2/OTG_HS_DP, 96 PD8/U3_TX/FMC_D13, 97 PD9/U3_RX/FMC_D14, 98 PD10/U3_CK/FMC_D15/LCD_B3, 99 PD11/U3_CTS/FMC_A16, 100 PD12/TIM4_CH1/U3_RTS/FMC_A17, 101 PD13/TIM4_CH2/FMC_A18, 102 VSS, 103 VDD, 104 PD14/TIM4_CH3/FMC_D0, 105 PD15/TIM4_CH4/FMC_D1, 106 PG2/FMC_A12, 107 PG3/FMC_A13, 108 PG4/FMC_A14/FMC_BA0, 109 PG5/FMC_A15/FMC_BA1, 110 PG6/FMC_INT2/DCMI_D12/LCD_R7, 111 PG7/U6_CK/FMC_INT3/DCMI_D13/LCD_CLK, 112 PG8/SPI6_NSS/U6_RTS/ETH_PPS_OUT/FMC_SDCLK, 113 VSS, 114 VDD, 115 PC6/TIM3_CH1/TIM8_CH1/I2S2_MCK/U6_TX/SDIO_D6/DCMI_D0/LCD_HSYNC, 116 PC7/TIM3_CH2/TIM8_CH2/I2S3_MCK/U6_RX/SDIO_D7/DCMI_D1/LCD_G6, 117 PC8/TIM3_CH3/TIM8_CH3/U6_CK/SDIO_D0/DCMI_D2, 118 PC9/MCO2/TIM3_CH4/TIM8_CH4/I2C3_SDA/I2S_CKIN/SDIO_D1/DCMI_D3, 119 PA8/MCO1/TIM1_CH1/I2C3_SCL/U1_CK/OTG_FS_SOF/LCD_R6, 120 PA9/TIM1_CH2/I2C3_SMBA/U1_TX/DCMI_D0/OTG_FS_VBUS, 121 PA10/TIM1_CH3/U1_RX/OTG_FS_ID/DCMI_D1, 122 PA11/TIM1_CH4/U1_CTS/CAN1_RX/LCD_R4/OTG_FS_DM, 123 PA12/TIM1_ETR/U1_RTS/CAN1_TX/LCD_R5/OTG_FS_DP, 124 PA13/JTMS/SWDIO, 125 VCAP_2, 126 VSS, 127 VDD, 128 PH13/TIM8_CH1N/CAN1_TX/FMC_D21/LCD_G2, 129 PH14/TIM8_CH2N/FMC_D22/DCMI_D4/LCD_G3, 130 PH15/TIM8_CH3N/FMC_D23/DCMI_D11/LCD_G4, 131 PI0/TIM5_CH4/SPI2_NSS/I2S2_WS/FMC_D24/DCMI_D13/LCD_G5, 132 PI1/SPI2_SCK/I2S2_CK/FMC_D25/DCMI_D8/LCD_G6, 133 PI2/TIM8_CH4/SPI2_MISO/I2S2ext_SD/FMC_D26/DCMI_D9/LCD_G7, 134 PI3/TIM8_ETR/SPI2_MOSI/I2S2_SD/FMC_D27/DCMI_D10, 135 VSS, 136 VDD, 137 PA14/JTCK/SWDCLK, 138 PA15/JTDI/TIM2_CH1/TIM2_ETR/SPI1_NSS/SPI3_NSS/I2S3_WS, 139 PC10/SPI3_SCK/I2S3_CK/U3_TX/U4_TX/SDIO_D2/DCMI_D8/LCD_R2, 140 PC11/I2S3ext_SD/SPI3_MISO/U3_RX/U4_RX/SDIO_D3/DCMI_D4, 141 PC12/SPI3_MOSI/I2S3_SD/U3_CK/U5_TX/SDIO_CK/DCMI_D9, 142 PD0/CAN1_RX/FMC_D2, 143 PD1/CAN1_TX/FMC_D3, 144 PD2/TIM3_ETR/U5_RX/SDIO_CMD/DCMI_D11, 145 PD3/SPI2_SCK/I2S2_CK/U2_CTS/FMC_CLK/DCMI_D5/LCD_G7, 146 PD4/U2_RTS/FMC_NOE, 147 PD5/U2_TX/FMC_NWE, 148 VSS, 149 VDD, 150 PD6/SPI3_MOSI/I2S3_SD/SAI1_SD_A/U2_RX/FMC_NWAIT/DCMI_D10/LCD_B2, 151 PD7/U2_CK/FMC_NE1/FMC_NCE2, 152 PG9/U6_RX/FMC_NE2/FMC_NCE3, 153 PG10/LCD_G3/FMC_NE3/FMC_NCE4_1/DCMI_D2/LCD_B2, 154 PG11/ETH_MII_TX_EN/ETH_RMII_TX_EN/FMC_NCE4_2/DCMI_D3/LCD_B3, 155 PG12/SPI6_MISO/U6_RTS/FMC_NE4/LCD_B1/LCD_B4, 156 PG13/SPI6_SCK/U6_CTS/ETH_MII_TXD0/ETH_RMII_TXD0/FMC_A24, 157 PG14/SPI6_MOSI/U6_TX/ETH_MII_TXD1/ETH_RMII_TXD1/FMC_A25, 158 VSS, 159 VDD, 160 PG15/U6_CTS/FMC_SDNCAS/DCMI_D13, 161 PB3/JTDO/TIM2_CH2/SPI1_SCK/SPI3_SCK/I2S3_CK, 162 PB4/NJTRST/TIM3_CH1/SPI1_MISO/SPI3_MISO/I2S3ext_SD, 163 PB5/TIM3_CH2/I2C1_SMBA/SPI1_MOSI/SPI3_MOSI/I2S3_SD/CAN2_RX/OTG_HS_ULPI_D7/ETH_PPS_OUT/FMC_SDCKE1/DCMI_D10, 164 PB6/TIM4_CH1/I2C1_SCL/U1_TX/CAN2_TX/FMC_SDNE1/DCMI_D5, 165 PB7/TIM4_CH2/I2C1_SDA/U1_RX/FMC_NL/DCMI_VSYNC, 166 BOOT0, 167 PB8/TIM4_CH3/TIM10_CH1/I2C1_SCL/CAN1_RX/ETH_MII_TXD3/SDIO_D4/DCMI_D6/LCD_B6, 168 PB9/TIM4_CH4/TIM11_CH1/I2C1_SDA/SPI2_NSS/I2S2_WS/CAN1_TX/SDIO_D5/DCMI_D7/LCD_B7, 169 PE0/TIM4_ETR/U8_RX/FMC_NBL0/DCMI_D2, 170 PE1/U8_TX/FMC_NBL1/DCMI_D3, 171 PDR_ON, 172 VDD, 173 PI4/TIM8_BKIN/FMC_NBL2/DCMI_D5/LCD_B4, 174 PI5/TIM8_CH1/FMC_NBL3/DCMI_VSYNC/LCD_B5, 175 PI6/TIM8_CH2/FMC_D28/DCMI_D6/LCD_B6, 176 PI7/TIM8_CH3/FMC_D29/DCMI_D7/LCD_B7

## SW
designator BS?, comment SW-3
footprint SW-3 (SWITCH;PIN:10;25*50;)
pins: 1 HP, 2 TP, 3 LP

## SW PUSHBUTTON
designator SW?
龟仔开关
footprint Pushbutton (3 * 4 * 2mm SMD)
pins: 1 (in), 2 (in)

## SW SMD-2P
designator S?
8位拨码开关
footprint DSHP02TSGER
pins: 1 A1, 2 A2, 3 B2, 4 B1

## SW SMD-8P
designator S?
8位拨码开关
footprint DSHP08TSGER
pins: 1 A1, 2 A2, 3 A3, 4 A4, 5 A5, 6 A6, 7 A7, 8 A8, 9 B8, 10 B7, 11 B6, 12 B5, 13 B4, 14 B3, 15 B2, 16 B1

## SW-PB
designator S?  (value not drawn)
Switch; Published: 24-Mar-1999; LatestRevisionDate: 17-Jul-2002; LatestRevisionNote: Re-released for DXP Platform.; PackageReference: SPST-2; Publisher: Altium Limited
footprint KEY(3.2*4.2)
pins: 1, 2

## SW-PB4P
designator S?  value 6×6×5.0mm,黑色  (hidden comment: SW-PB4P)
6×6×5.0mm,黑色,SMD,,*; 物料代码: 1.09.01.0003; 名称: 轻触按键; 贴片和直插: SMT; 型号: 6×6×5.0mm,黑色,SMD; ComponentLink1Description: ErpDataInfo; ComponentLink1URL: http://erp.zlgmcu.com/ErpExt/ErpData/ListMateriel.aspx?pkey=1.09.01.0003
footprint KEY-6S
pins: 1, 2, 3, 4
2 alternate drawings of the same symbol

## SY8032
designator U?
footprint SOT23-6 (SOT-23/SC-74A; 5 Leads; Body 3.1 x 3 mm, inc. leads (LxW max))
pins: 1 EN, 2 GND, 3 LX, 4 IN, 5 PG, 6 FB

## SY8089AAAC
designator U?
BOM_Manufacturer: silergy(矽力杰); BOM_Supplier: LCSC; BOM_Manufacturer Part: SY8089AAAC; BOM_Supplier Part: C78988; BOM_JLCPCB Part Class: Extended Part; spicePre: U; spiceSymbolName: SY8089AAAC
footprint SOT-23-5
pins: 1 EN, 2 GND, 3 LX, 4 IN, 5 FB

## TEST-DOT
designator T?, comment 3.3V  (value not drawn)
footprint PAD-40 (TEST-P)
footprint PAD-50 (TEST-P)
footprint PAD-25/40
footprint PAD-35/50
pins: 1

## TEST-POINT
designator 200mV?, comment TEST POINT
测试点
footprint TP-1.0 (1.0mm)
footprint TP-1.5 (1.5mm)
pins: 1

## TF Card
designator J?  value PUSH TYPE,Material NO.473521001
PUSH TYPE,Material NO.473521001,15.2×14×1.88mm,molex,RoHS; 物料代码: 1.10.05.0147; 名称: TF卡座; 贴片和直插: SMT; 厂商: molex; RoHS: RoHS; 型号: PUSH TYPE,Material NO.473521001,15.2×14×1.88mm; ComponentLink1Description: ErpDataInfo; ComponentLink1URL: http://erp.zlgmcu.com/ErpExt/ErpData/ListMateriel.aspx?pkey=1.10.05.0147
footprint TF-MOLEX_a
pins: 1 DATA2, 2 CD/DATA3, 3 CMD, 4 VDD, 5 CLK, 6 VSS, 7 DATA0, 8 DATA1, 9 Card Detection N, 10 Card Detection P, 11 FGND, 12 FGND, 13 FGND, 14 FGND, 15 FGND, 16 FGND, 17 FGND

## TF_CARD
designator P?
TF card interface
footprint TF_CARD
pins: 1 DAT2/RSV, 2 CD/DAT3/CS, 3 CMD/DI, 4 VDD, 5 CLK/SCLK, 6 VSS, 7 DAT0/DO, 8 DAT1/RSV, 9 C/D, 10 GND
2 alternate drawings of the same symbol

## TFT3.5'
designator TFTLCD?
3.5寸,带触摸,分辨率:480*320
footprint TFT3.5' (TFT,LCD,480*320,3.5',TOUCH,16bit)
pins: 1 GND, 2 VDD, 3 IOVCC, 4 CS, 5 RS, 6 WR, 7 RD, 8 RST, 9 DB0, 10 DB1, 11 DB2, 12 DB3, 13 DB4, 14 DB5, 15 DB6, 16 DB7, 17 DB8, 18 DB9, 19 DB10, 20 DB11, 21 DB12, 22 DB13, 23 DB14, 24 DB15, 25 FMARK, 26 Y-, 27 X-, 28 Y+, 29 X+, 30 LEDK1, 31 LEDK2, 32 LEDK3, 33 LEDK4, 34 LEDK5, 35 LEDK6, 36 LEDA, 37 GND

## TFT4.3‘
designator TFT?, comment TFT4.3'
4.3寸,电容/电阻触摸,分辨率:480*800
footprint TFT4.3' (TFT,LCD,480*800,4.3',TOUCH,16bit)
pins: 1 GND, 2 VDD, 3 IOVCC, 4 CS, 5 RS, 6 WR, 7 RD, 8 RST, 9 DB0, 10 DB1, 11 DB2, 12 DB3, 13 DB4, 14 DB5, 15 DB6, 16 DB7, 17 DB8, 18 DB9, 19 DB10, 20 DB11, 21 DB12, 22 DB13, 23 DB14, 24 DB15, 25 NC, 26 Y-, 27 X-, 28 Y+, 29 X+, 30 NC, 31 NC, 32 NC, 33 NC, 34 LED_K, 35 LED_A, 36 NC, 37 GND

## TFT_LCD
designator TFTLCD?
footprint DB2*17 (DB_LCD)
footprint DB2*17-3.5 (DB_LCD-3.5')
footprint db2*17-4.3 (DB_LCD-4.3')
pins: 1 LCD_CS, 2 RS, 3 WR/CLK, 4 RD, 5 RST, 6 D0, 7 D1, 8 D2, 9 D3, 10 D4, 11 D5, 12 D6, 13 D7, 14 D8, 15 D9, 16 D10, 17 D11, 18 D12, 19 D13, 20 D14, 21 D15, 22 GND, 23 BL, 24 VDD3.3, 25 VDD3.3, 26 GND, 27 GND, 28 BL_VDD, 29 MISO, 30 MOSI, 31 T_PEN, 32 MO, 33 T_CS, 34 CLK

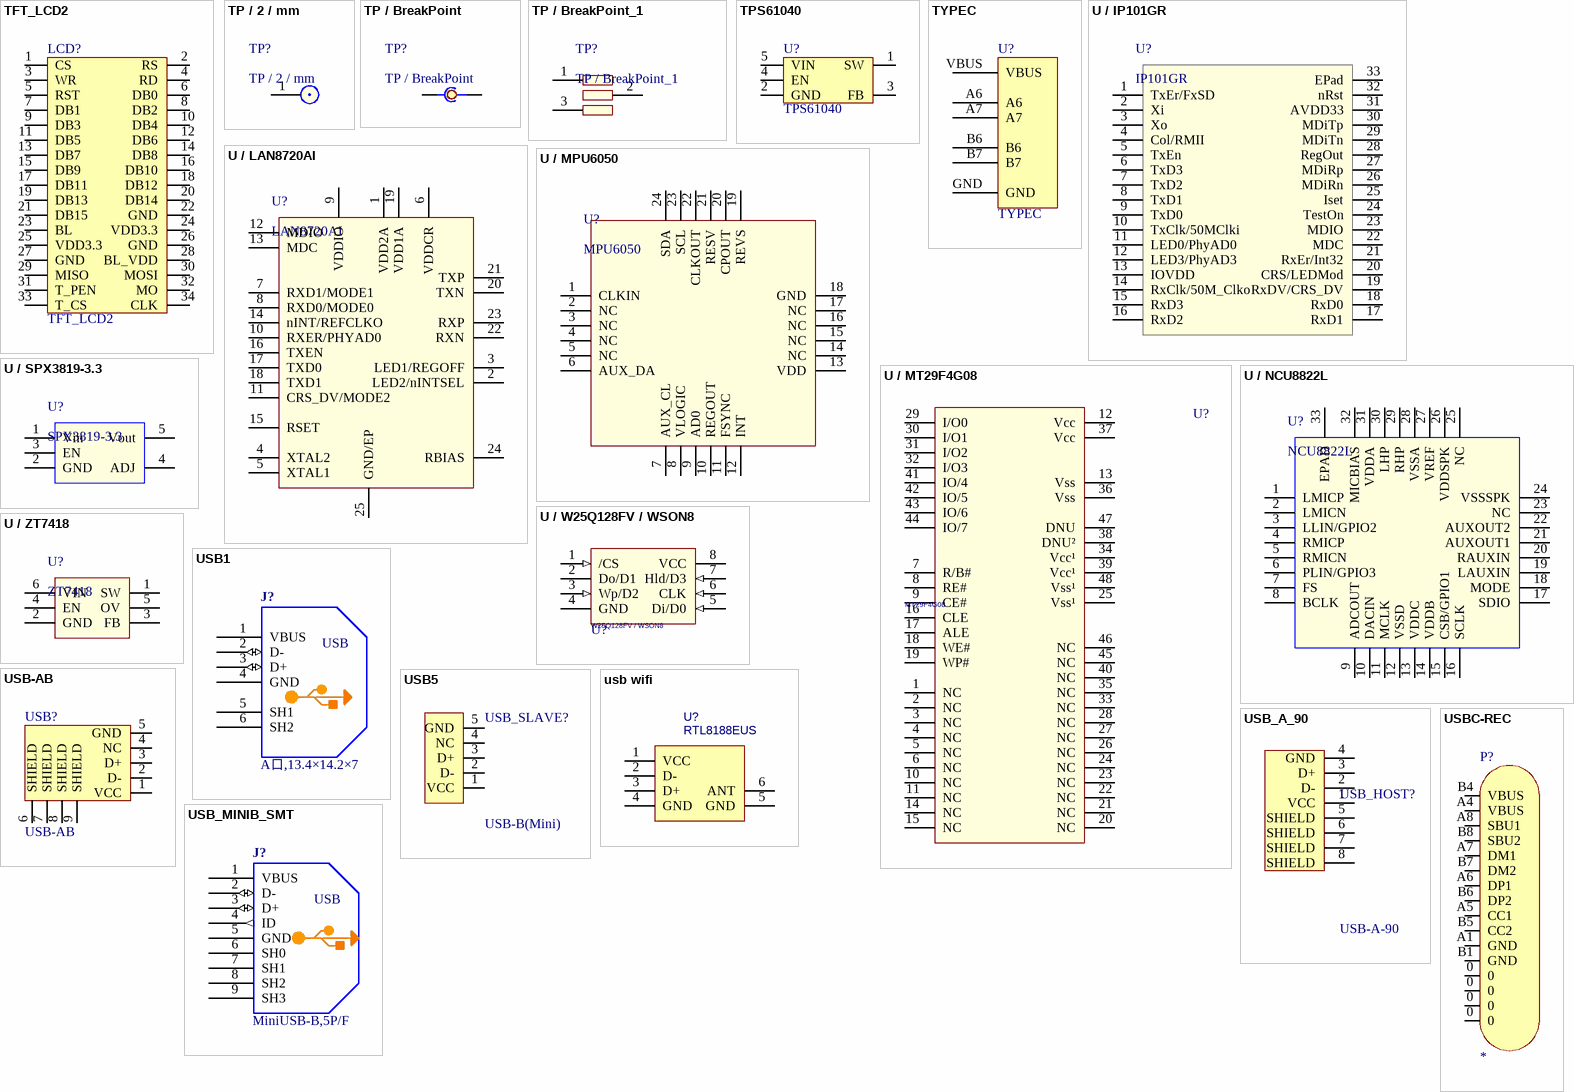
[diagram p12: symbols TFT_LCD2 to USBC-REC]

## TFT_LCD2
designator LCD?
footprint DB2*17-3.5 (DB_LCD-3.5')
pins: 1 CS, 2 RS, 3 WR, 4 RD, 5 RST, 6 DB0, 7 DB1, 8 DB2, 9 DB3, 10 DB4, 11 DB5, 12 DB6, 13 DB7, 14 DB8, 15 DB9, 16 DB10, 17 DB11, 18 DB12, 19 DB13, 20 DB14, 21 DB15, 22 GND, 23 BL, 24 VDD3.3, 25 VDD3.3, 26 GND, 27 GND, 28 BL_VDD, 29 MISO, 30 MOSI, 31 T_PEN, 32 MO, 33 T_CS, 34 CLK

## TP / 2 / mm
designator TP?
测试点
footprint TP-Test-2mm
pins: 1

## TP / BreakPoint
designator TP?
断点
footprint point_break
pins: 1, 2

## TP / BreakPoint_1
designator TP?
断点
footprint PAD3P
pins: 1, 2, 3

## TPS61040
designator U?
DC DC Step Up IC
footprint SOT-23-5
pins: 1 SW, 2 GND, 3 FB, 4 EN, 5 VIN

## TYPEC
designator U?
footprint TYPC16PS
pins: A6, A7, B6, B7, GND, VBUS

## U / IP101GR
designator U?, comment IP101GR
网络控制收发器
footprint QFN32 (4X4mm)
pins: 1 TxEr/FxSD, 2 Xi, 3 Xo, 4 Col/RMII, 5 TxEn, 6 TxD3, 7 TxD2, 8 TxD1, 9 TxD0, 10 TxClk/50MClki, 11 LED0/PhyAD0, 12 LED3/PhyAD3, 13 IOVDD, 14 RxClk/50M_Clko, 15 RxD3, 16 RxD2, 17 RxD1, 18 RxD0, 19 RxDV/CRS_DV, 20 CRS/LEDMod, 21 RxEr/Int32, 22 MDC, 23 MDIO, 24 TestOn, 25 Iset, 26 MDiRn, 27 MDiRp, 28 RegOut, 29 MDiTn, 30 MDiTp, 31 AVDD33, 32 nRst, 33 EPad

## U / LAN8720AI
designator U?, comment LAN8720AI
Mcroship-Ethernet  Transceiver
footprint QFN24
pins: 1 VDD2A, 2 LED2/nINTSEL, 3 LED1/REGOFF, 4 XTAL2, 5 XTAL1, 6 VDDCR, 7 RXD1/MODE1, 8 RXD0/MODE0, 9 VDDIO, 10 RXER/PHYAD0, 11 CRS_DV/MODE2, 12 MDIO, 13 MDC, 14 nINT/REFCLKO, 15 RSET, 16 TXEN, 17 TXD0, 18 TXD1, 19 VDD1A, 20 TXN, 21 TXP, 22 RXN, 23 RXP, 24 RBIAS, 25 GND/EP

## U / MPU6050
designator U?, comment MPU6050
footprint QFN24
pins: 1 CLKIN, 2 NC, 3 NC, 4 NC, 5 NC, 6 AUX_DA, 7 AUX_CL, 8 VLOGIC, 9 AD0, 10 REGOUT, 11 FSYNC, 12 INT, 13 VDD, 14 NC, 15 NC, 16 NC, 17 NC, 18 GND, 19 REVS, 20 CPOUT, 21 RESV, 22 CLKOUT, 23 SCL, 24 SDA

## U / MT29F4G08
designator U?, comment MT29F4G08
Micro-NAND FLASH
footprint TOSP48
pins: 1 NC, 2 NC, 3 NC, 4 NC, 5 NC, 6 NC, 7 R/B#, 8 RE#, 9 CE#, 10 NC, 11 NC, 12 Vcc, 13 Vss, 14 NC, 15 NC, 16 CLE, 17 ALE, 18 WE#, 19 WP#, 20 NC, 21 NC, 22 NC, 23 NC, 24 NC, 25 Vss¹, 26 NC, 27 NC, 28 NC, 29 I/O0, 30 I/O1, 31 I/O2, 32 I/O3, 33 NC, 34 Vcc¹, 35 NC, 36 Vss, 37 Vcc, 38 DNU², 39 Vcc¹, 40 NC, 41 IO/4, 42 IO/5, 43 IO/6, 44 IO/7, 45 NC, 46 NC, 47 DNU, 48 Vss¹

## U / NCU8822L
designator U?, comment NCU8822L
音频解码器
footprint QFN32-5x5 (5X5mm)
pins: 1 LMICP, 2 LMICN, 3 LLIN/GPIO2, 4 RMICP, 5 RMICN, 6 PLIN/GPIO3, 7 FS, 8 BCLK, 9 ADCOUT, 10 DACIN, 11 MCLK, 12 VSSD, 13 VDDC, 14 VDDB, 15 CSB/GPIO1, 16 SCLK, 17 SDIO, 18 MODE, 19 LAUXIN, 20 RAUXIN, 21 AUXOUT1, 22 AUXOUT2, 23 NC, 24 VSSSPK, 25 NC, 26 VDDSPK, 27 VREF, 28 VSSA, 29 RHP, 30 LHP, 31 VDDA, 32 MICBIAS, 33 EPAD

## U / SPX3819-3.3
designator U?, comment SPX3819-3.3
SIPEX-LDO
footprint SOT23-5
pins: 1 Vin, 2 GND, 3 EN, 4 ADJ, 5 Vout

## U / W25Q128FV / WSON8
designator U?, comment W25Q128FV / WSON8
Winbond-SPI Flash
footprint WSON8
pins: 1 /CS (in), 2 Do/D1, 3 Wp/D2 (in), 4 GND (power), 5 Di/D0 (in), 6 CLK (in), 7 Hld/D3 (in), 8 VCC (power)

## U / ZT7418
designator U?, comment ZT7418
电源管理芯片
footprint SOT23-6
pins: 1 SW, 2 GND, 3 FB, 4 EN, 5 OV, 6 VIN

## USB1
designator J?, comment value A口,13.4×14.2×7  (hidden comment: USB)
A口,13.4×14.2×7,90°,RoHS; Text Field1: 50; Text Field2: 60; 物料代码: 1.10.05.0008; 名称: USB插座; 贴片和直插: THT; RoHS: RoHS; 型号: A口,13.4×14.2×7,90°; ComponentLink1Description: ErpDataInfo; ComponentLink1URL: http://erp.zlgmcu.com/ErpExt/ErpData/ListMateriel.aspx?pkey=1.10.05.0008
footprint USB-A (USB A口)
pins: 1 VBUS, 2 D- (io), 3 D+ (io), 4 GND (power), 5 SH1, 6 SH2
2 alternate drawings of the same symbol

## USB5
designator USB_SLAVE?, comment USB-B(Mini)
footprint USB/SM0.8-6H5
pins: 1 VCC, 2 D-, 3 D+, 4 NC, 5 GND

## usb wifi
designator U?, comment RTL8188EUS
BOM_Manufacturer: Ai-Thinker; Contributor: 13603072355; BOM_Supplier: LCSC; BOM_Supplier Part: C82891; spicePre: U; spiceSymbolName: usb wifi
footprint RTL8188CUS USB WIFI
pins: 1 VCC, 2 D-, 3 D+, 4 GND, 5 GND, 6 ANT

## USB-AB
designator USB?
MicroUSB
footprint USB-AB-SOP (Micro USB SOP)
footprint USB_AB (Micro usb座 5pin)
pins: 1 VCC, 2 D-, 3 D+, 4 NC, 5 GND, 6 SHIELD, 7 SHIELD, 8 SHIELD, 9 SHIELD

## USB_A_90
designator USB_HOST?, comment USB-A-90
footprint USB-A-90
pins: 1 VCC, 2 D-, 3 D+, 4 GND, 5 SHIELD, 6 SHIELD, 7 SHIELD, 8 SHIELD

## USB_MINIB_SMT
designator J?  value MiniUSB-B,5P/F  (hidden comment: USB_MINIB_SMT)
MiniUSB-B,5P/F,7.6×9×4,SMD,RoHS; Text Field1: 100; Text Field2: 80; 物料代码: 1.10.05.0024; 名称: USB插座; 贴片和直插: SMT; RoHS: RoHS; 型号: MiniUSB-B,5P/F,7.6×9×4,SMD; ComponentLink1Description: ErpDataInfo; ComponentLink1URL: http://erp.zlgmcu.com/ErpExt/ErpData/ListMateriel.aspx?pkey=1.10.05.0024
footprint USB_MINIB_SMT
pins: 1 VBUS, 2 D- (io), 3 D+ (io), 4 ID (out), 5 GND (power), 6 SH0, 7 SH1, 8 SH2, 9 SH3
text: USB

## USBC-REC
designator P?
USB Type-C USB
footprint TYPE-C-Receptacle-2.0
pins: 0, 0, 0, 0, A1 GND, A4 VBUS, A5 CC1, A6 DP1, A7 DM1, A8 SBU1, B1 GND, B4 VBUS, B5 CC2, B6 DP2, B7 DM2, B8 SBU2
2 alternate drawings of the same symbol

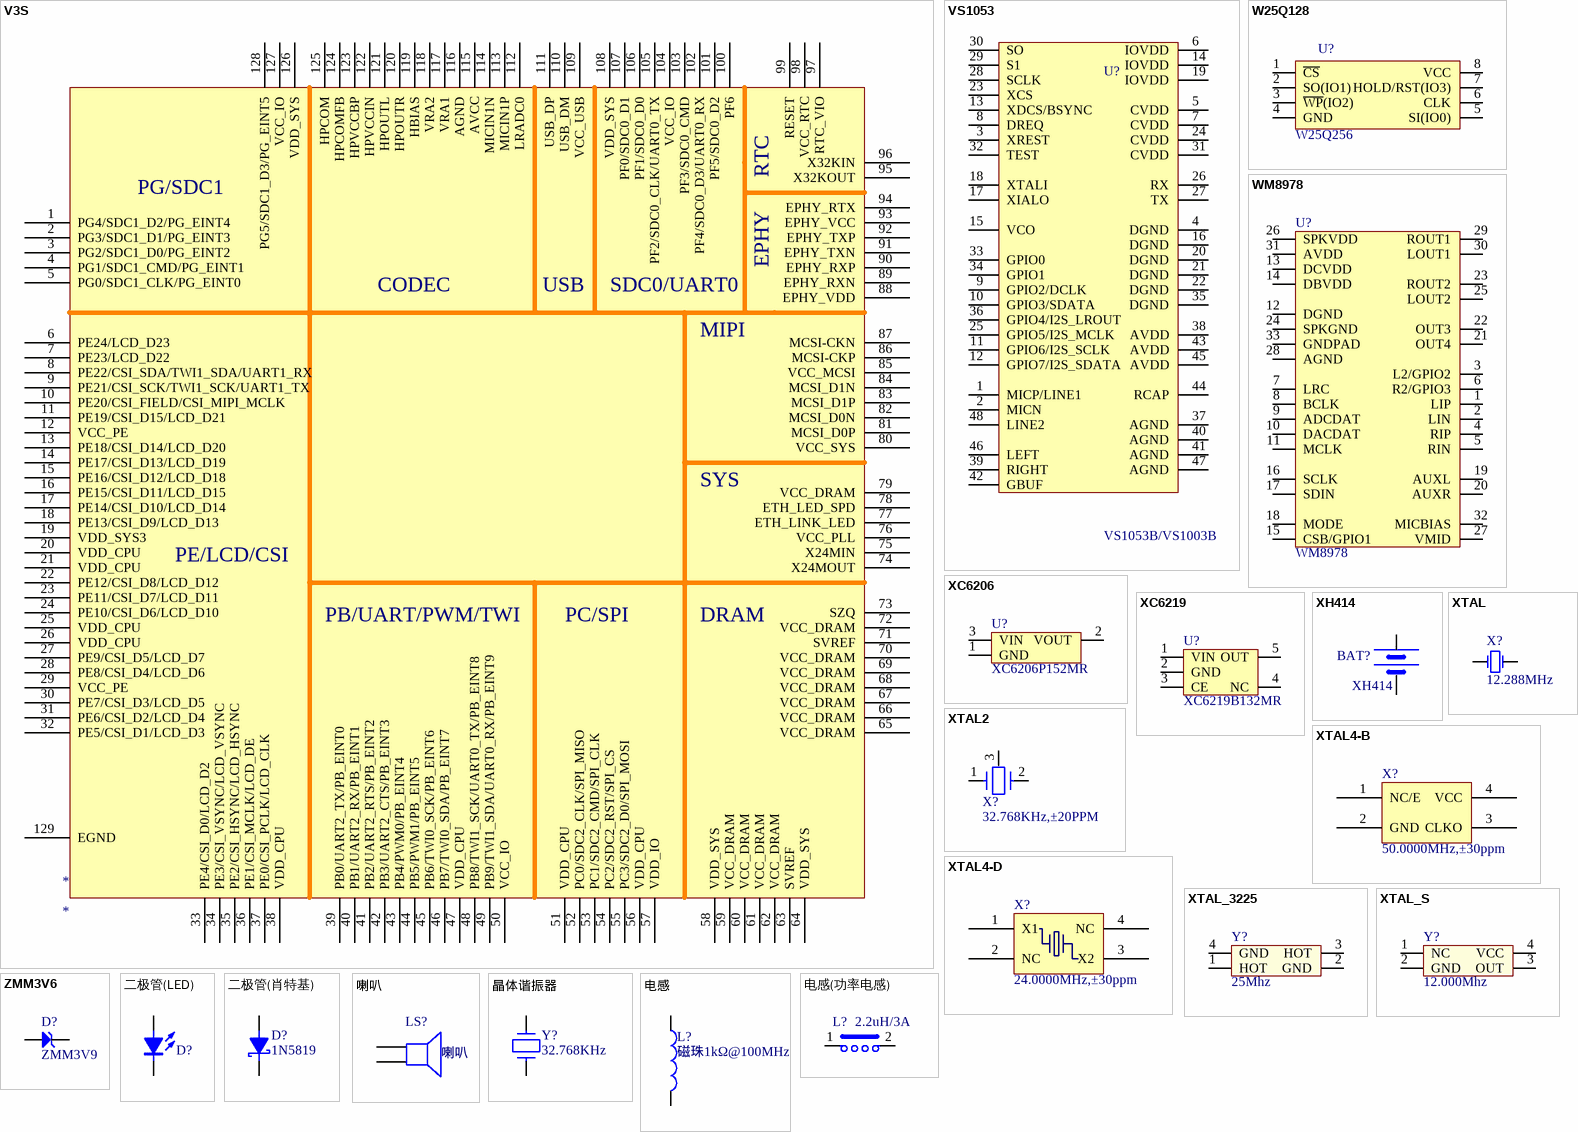
[diagram p13: symbols V3S to 电感(功率电感)]

## V3S
designator *
footprint eQFP128 (TSQFP, 128-Leads, Body 14.00x14.00mm, Pitch 0.40mm, Thermal Pad 5.70x5.70mm, IPC High Density)
pins: 1 PG4/SDC1_D2/PG_EINT4, 2 PG3/SDC1_D1/PG_EINT3, 3 PG2/SDC1_D0/PG_EINT2, 4 PG1/SDC1_CMD/PG_EINT1, 5 PG0/SDC1_CLK/PG_EINT0, 6 PE24/LCD_D23, 7 PE23/LCD_D22, 8 PE22/CSI_SDA/TWI1_SDA/UART1_RX, 9 PE21/CSI_SCK/TWI1_SCK/UART1_TX, 10 PE20/CSI_FIELD/CSI_MIPI_MCLK, 11 PE19/CSI_D15/LCD_D21, 12 VCC_PE, 13 PE18/CSI_D14/LCD_D20, 14 PE17/CSI_D13/LCD_D19, 15 PE16/CSI_D12/LCD_D18, 16 PE15/CSI_D11/LCD_D15, 17 PE14/CSI_D10/LCD_D14, 18 PE13/CSI_D9/LCD_D13, 19 VDD_SYS3, 20 VDD_CPU, 21 VDD_CPU, 22 PE12/CSI_D8/LCD_D12, 23 PE11/CSI_D7/LCD_D11, 24 PE10/CSI_D6/LCD_D10, 25 VDD_CPU, 26 VDD_CPU, 27 PE9/CSI_D5/LCD_D7, 28 PE8/CSI_D4/LCD_D6, 29 VCC_PE, 30 PE7/CSI_D3/LCD_D5, 31 PE6/CSI_D2/LCD_D4, 32 PE5/CSI_D1/LCD_D3, 33 PE4/CSI_D0/LCD_D2, 34 PE3/CSI_VSYNC/LCD_VSYNC, 35 PE2/CSI_HSYNC/LCD_HSYNC, 36 PE1/CSI_MCLK/LCD_DE, 37 PE0/CSI_PCLK/LCD_CLK, 38 VDD_CPU, 39 PB0/UART2_TX/PB_EINT0, 40 PB1/UART2_RX/PB_EINT1, 41 PB2/UART2_RTS/PB_EINT2, 42 PB3/UART2_CTS/PB_EINT3, 43 PB4/PWM0/PB_EINT4, 44 PB5/PWM1/PB_EINT5, 45 PB6/TWI0_SCK/PB_EINT6, 46 PB7/TWI0_SDA/PB_EINT7, 47 VDD_CPU, 48 PB8/TWI1_SCK/UART0_TX/PB_EINT8, 49 PB9/TWI1_SDA/UART0_RX/PB_EINT9, 50 VCC_IO, 51 VDD_CPU, 52 PC0/SDC2_CLK/SPI_MISO, 53 PC1/SDC2_CMD/SPI_CLK, 54 PC2/SDC2_RST/SPI_CS, 55 PC3/SDC2_D0/SPI_MOSI, 56 VDD_CPU, 57 VDD_IO, 58 VDD_SYS, 59 VCC_DRAM, 60 VCC_DRAM, 61 VCC_DRAM, 62 VCC_DRAM, 63 SVREF, 64 VDD_SYS, 65 VCC_DRAM, 66 VCC_DRAM, 67 VCC_DRAM, 68 VCC_DRAM, 69 VCC_DRAM, 70 VCC_DRAM, 71 SVREF, 72 VCC_DRAM, 73 SZQ, 74 X24MOUT, 75 X24MIN, 76 VCC_PLL, 77 ETH_LINK_LED, 78 ETH_LED_SPD, 79 VCC_DRAM, 80 VCC_SYS, 81 MCSI_D0P, 82 MCSI_D0N, 83 MCSI_D1P, 84 MCSI_D1N, 85 VCC_MCSI, 86 MCSI-CKP, 87 MCSI-CKN, 88 EPHY_VDD, 89 EPHY_RXN, 90 EPHY_RXP, 91 EPHY_TXN, 92 EPHY_TXP, 93 EPHY_VCC, 94 EPHY_RTX, 95 X32KOUT, 96 X32KIN, 97 RTC_VIO, 98 VCC_RTC, 99 RESET, 100 PF6, 101 PF5/SDC0_D2, 102 PF4/SDC0_D3/UART0_RX, 103 PF3/SDC0_CMD, 104 VCC_IO, 105 PF2/SDC0_CLK/UART0_TX, 106 PF1/SDC0_D0, 107 PF0/SDC0_D1, 108 VDD_SYS, 109 VCC_USB, 110 USB_DM, 111 USB_DP, 112 LRADC0, 113 MICIN1P, 114 MICIN1N, 115 AVCC, 116 AGND, 117 VRA1, 118 VRA2, 119 HBIAS, 120 HPOUTR, 121 HPOUTL, 122 HPVCCIN, 123 HPVCCBP, 124 HPCOMFB, 125 HPCOM, 126 VDD_SYS, 127 VCC_IO, 128 PG5/SDC1_D3/PG_EINT5, 129 EGND
text: RTC; PG/SDC1; EPHY; CODEC; USB; SDC0/UART0; MIPI; SYS; PE/LCD/CSI; PB/UART/PWM/TWI; PC/SPI; DRAM

## VS1053
designator U?, comment VS1053B/VS1003B
footprint mTQFP48 (5.8mm)
pins: 1 MICP/LINE1, 2 MICN, 3 XREST, 4 DGND, 5 CVDD, 6 IOVDD, 7 CVDD, 8 DREQ, 9 GPIO2/DCLK, 10 GPIO3/SDATA, 11 GPIO6/I2S_SCLK, 12 GPIO7/I2S_SDATA, 13 XDCS/BSYNC, 14 IOVDD, 15 VCO, 16 DGND, 17 XIALO, 18 XTALI, 19 IOVDD, 20 DGND, 21 DGND, 22 DGND, 23 XCS, 24 CVDD, 25 GPIO5/I2S_MCLK, 26 RX, 27 TX, 28 SCLK, 29 S1, 30 SO, 31 CVDD, 32 TEST, 33 GPIO0, 34 GPIO1, 35 DGND, 36 GPIO4/I2S_LROUT, 37 AGND, 38 AVDD, 39 RIGHT, 40 AGND, 41 AGND, 42 GBUF, 43 AVDD, 44 RCAP, 45 AVDD, 46 LEFT, 47 AGND, 48 LINE2

## W25Q128
designator U?, comment W25Q256
W25Q128
footprint SOIC-8 (SOIC)
footprint WSON8 (WSON8 8-Leads, Body 6.1x8.1mm (max), Pitch 1.27mm, IPC Medium Density)
pins: 1 ~{CS}, 2 SO(IO1), 3 ~{WP}(IO2), 4 GND, 5 SI(IO0) (power), 6 CLK, 7 HOLD/RST(IO3) (power), 8 VCC

## WM8978
designator U?
24bit ADC&DAC
footprint qfn32 (QFN, 32-Leads, Body 5.0x5.0mm (max), Pitch 0.50mm, IPC Medium Density)
pins: 1 LIP, 2 LIN, 3 L2/GPIO2, 4 RIP, 5 RIN, 6 R2/GPIO3, 7 LRC, 8 BCLK, 9 ADCDAT, 10 DACDAT, 11 MCLK, 12 DGND, 13 DCVDD, 14 DBVDD, 15 CSB/GPIO1, 16 SCLK, 17 SDIN, 18 MODE, 19 AUXL, 20 AUXR, 21 OUT4, 22 OUT3, 23 ROUT2, 24 SPKGND, 25 LOUT2, 26 SPKVDD, 27 VMID, 28 AGND, 29 ROUT1, 30 LOUT1, 31 AVDD, 32 MICBIAS, 33 GNDPAD

## XC6206
designator U?, comment XC6206P152MR
LDO,SOT23,1.2~5.0V
footprint SOT-23 (SOT-23; 3 Leads; Body 3.0 x 2.5 mm, inc. leads (LxW max))
pins: 1 GND, 2 VOUT, 3 VIN

## XC6219
designator U?, comment XC6219B132MR
footprint SOT-23-5
pins: 1 VIN, 2 GND, 3 CE, 4 NC, 5 OUT

## XH414
designator BAT?
XH414 IV01E
footprint XH414 (BATTERY)
footprint BAT (BATTERY)
pins: 1 VCC, 2 GND

## XTAL
designator X?, comment 12.288MHz
Crystal Oscillator; Published: 8-Jun-2000; LatestRevisionDate: 17-Jul-2002; LatestRevisionNote: Re-released for DXP Platform.; Publisher: Altium Limited
footprint XTAL_US
pins: 1 OSC1, 2 OSC2

## XTAL2
designator X?  value 32.768KHz,±20PPM  (hidden comment: XTAL2)
32.768KHz,±20PPM,12.5PF,Ф2×6,工业级,RoHS; 物料代码: 1.07.02.0025; 名称: 晶体; 贴片和直插: SMT; 设备封装名称: 32.768KHz,±20PPM,12.5PF,Ф2×6,工业级; RoHS: RoHS; 型号: 32.768KHz,±20PPM,12.5PF,Ф2×6,工业级; ComponentLink1Description: ErpDataInfo; ComponentLink1URL: http://erp.zlgmcu.com/ErpExt/ErpData/ListMateriel.aspx?pkey=1.07.02.0025
footprint XTAL2-C-SM
pins: 1, 2, 3 G

## XTAL4-B
designator X?  value 50.0000MHz,±30ppm  (hidden comment: XTAL4-B)
50.0000MHz,±30ppm,3.3V,OE,-40~85℃,SMD5032,,RoHS; 物料代码: 1.07.03.0037; 名称: 晶体振荡器; 贴片和直插: SMT; 封装: SMD5032; RoHS: RoHS; 型号: 50.0000MHz,±30ppm,3.3V,OE,-40~85℃; ComponentLink1Description: ErpDataInfo; ComponentLink1URL: http://erp.zlgmcu.com/ErpExt/ErpData/ListMateriel.aspx?pkey=1.07.03.0037
footprint XTAL4-5X3A
pins: 1 NC/E, 2 GND, 3 CLKO, 4 VCC

## XTAL4-D
designator X?  value 24.0000MHz,±30ppm  (hidden comment: XTAL4-D)
24.0000MHz,±30ppm,20pF,-40~85℃,±30ppm,SMD5032,*,RoHS; 物料代码: 1.07.01.0033; 名称: 晶体; 贴片和直插: SMT; 封装: SMD5032; RoHS: RoHS; 型号: 24.0000MHz,±30ppm,20pF,-40~85℃,±30ppm; ComponentLink1Description: ErpDataInfo; ComponentLink1URL: http://erp.zlgmcu.com/ErpExt/ErpData/ListMateriel.aspx?pkey=1.07.01.0033
footprint XTAL4-3.2X2.5
footprint XTAL4-5X3B (XTAL-X53F)
pins: 1 X1, 2 NC, 3 X2, 4 NC

## XTAL_3225
designator Y?, comment 25Mhz
3225贴片无源晶振
footprint XTAL3225 (3.2mm*2.5mm)
pins: 1 HOT, 2 GND, 3 HOT, 4 GND

## XTAL_S
designator Y?, comment 12.000Mhz
有源晶振
footprint XTAL_S (XTAL_OSC)
footprint XTAL3225 (3.2mm*2.5mm)
pins: 1 NC, 2 GND, 3 OUT, 4 VCC

## ZMM3V6
designator D?, comment ZMM3V9
ZMM3V6
footprint DIODE_ZMMx (ZMM3V6)
pins: 1, 2

## 二极管(LED)
designator D?, comment 二极管(LED,红色)  (value not drawn)
Light-Emitting Diode
footprint D0805
footprint D0603
footprint LED(Φ3)
footprint LED(Φ5)
pins: 1 A, 2 K

## 二极管(肖特基)
designator D?, comment 1N5819
Diode Schottky
footprint SOD-123
footprint DFN3030-8 (DFN封装的二极管，引脚间距0.65mm)
footprint DO-214AA
footprint DO-214AB
footprint TO-252-3D2 (DPACK封装功率二极管)
footprint LL-34
footprint SMAF_A1
footprint SMAF_A2
pins: 1 A, 2 K

## 喇叭
designator LS?
footprint SPK(2.54)
footprint sip2(1.27)
pins: 1, 2

## 晶体谐振器
designator Y?, comment 32.768KHz
Crystal
footprint XTAL(HC-49)
footprint XTAL(HC-49)A
footprint XTAL(HC-49-SMD)
footprint XTAL(UM)
footprint XTAL(Φ2×6)_B (圆柱形晶体，不带外壳焊盘)
footprint FC-135 (FC135与FC-13F封装大小相同，只是实体厚度不同)
footprint FC-145 (晶体封装)
footprint FC-255 (晶体封装)
footprint XTAL(Φ3×8)_B (圆柱晶体，不带外壳焊盘)
pins: 1, 2

## 电感
designator L?, comment 磁珠1kΩ@100MHz
Inductor
footprint L1208
footprint L0402
footprint L0603
footprint L0805
footprint L1210
pins: 1, 2

## 电感(功率电感)
designator L?, comment 2.2uH/3A
252012CDMCD
footprint L-10.5P (7.8*7.8功率电感，带屏蔽罩)
footprint L-12.5P (12.5*12.5功率电感，带屏蔽罩)
footprint L-9.0X10.0K (9.0*10.0开放式功率电感)
footprint L-12P (12*12功率电感，带屏蔽罩)
footprint L-4.0S (4.0*4.0功率电感，磁胶(NR)电感)
pins: 1, 2